# Altium integrated library National Semiconductor ADC.IntLib: 538 symbols (part 5 of 19)
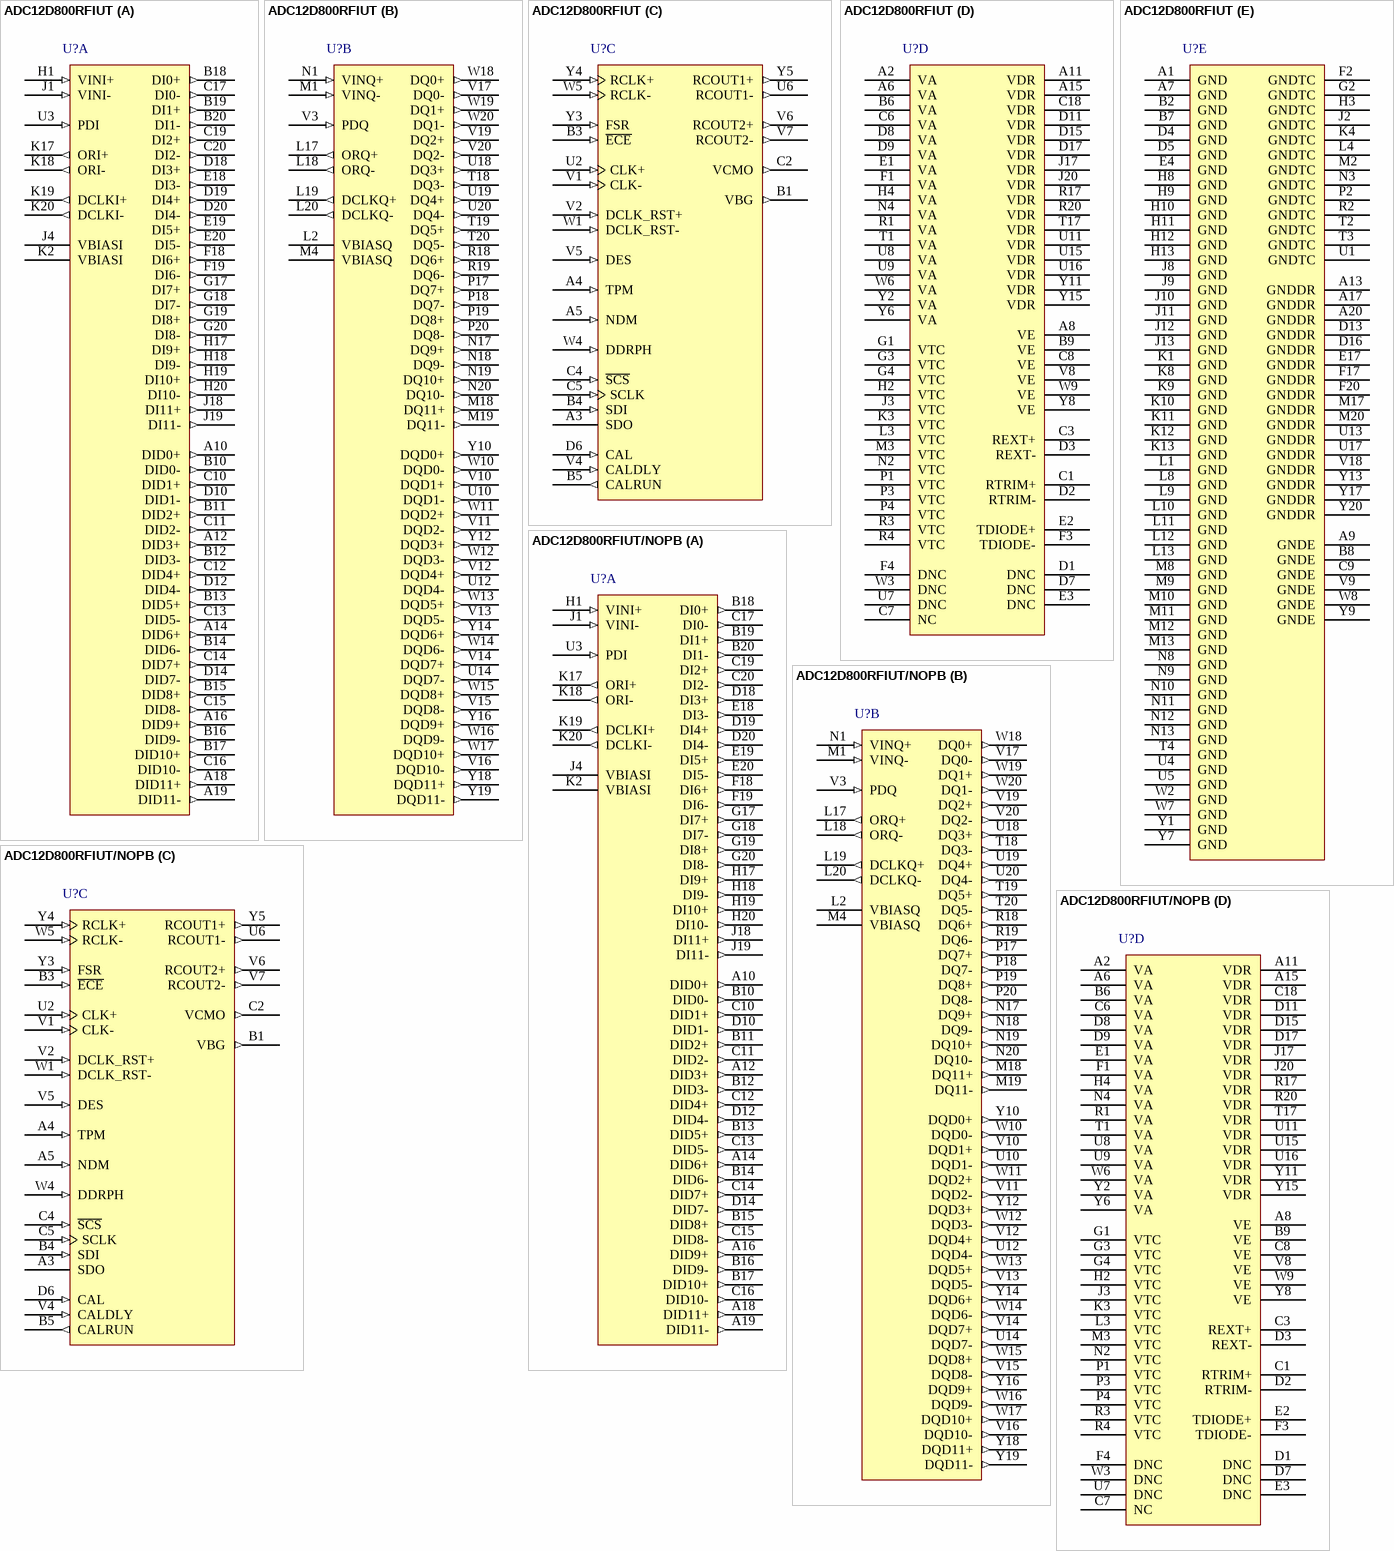
[diagram p49: symbols ADC12D800RFIUT to ADC12D800RFIUT/NOPB]

## ADC12D800RFIUT
designator U?
Low Power, 12-Bit, Dual 800 MSPS or Single 1.6 GSPS ADC, 292-pin TEPBGA; PartNumber: ADC12D800RFIUT; Manufacturer: National Semiconductor; PackageTopMarking: NSUZXYYTTE#*ADC12D800RFIUT; PowerWise: Y; CompType: ADC IC; DatasheetVersion: Mar-2013; PackageVersion: revA, Jul-2001; PackageReference: UFH292A; PackageDescription: TE-PBGA, 27 x 27 x 2.38mm, 292 Ball, 1.27mm Pitch; RoHS: N; PinCount: 292; Code_JEDEC: MS-034-BAL-2; ComponentLink1Description: ADC12D800RF Datasheet; ComponentLink1URL: http://www.ti.com/lit/ds/symlink/adc12d800rf.pdf; ComponentLink2Description: ADC12D800RF Web Page; ComponentLink2URL: http://www.national.com/pf/AD/ADC12D800RF.html; ComponentLink3Description: UFH292A Package Page; ComponentLink3URL: http://www.national.com/packaging/folders/ufh292a.html
footprint UFH292A (BGA, 292-Leads, Body 27x27mm, Pitch 1.27mm)
part A pins: A10 DID0+ (out), A12 DID3+ (out), A14 DID6+ (out), A16 DID9+ (out), A18 DID11+ (out), A19 DID11- (out), B10 DID0- (out), B11 DID2+ (out), B12 DID3- (out), B13 DID5+ (out), B14 DID6- (out), B15 DID8+ (out), B16 DID9- (out), B17 DID10+ (out), B18 DI0+ (out), B19 DI1+ (out), B20 DI1- (out), C10 DID1+ (out), C11 DID2- (out), C12 DID4+ (out), C13 DID5- (out), C14 DID7+ (out), C15 DID8- (out), C16 DID10- (out), C17 DI0- (out), C19 DI2+ (out), C20 DI2- (out), D10 DID1- (out), D12 DID4- (out), D14 DID7- (out), D18 DI3+ (out), D19 DI4+ (out), D20 DI4- (out), E18 DI3- (out), E19 DI5+ (out), E20 DI5- (out), F18 DI6+ (out), F19 DI6- (out), G17 DI7+ (out), G18 DI7- (out), G19 DI8+ (out), G20 DI8- (out), H1 VINI+ (in), H17 DI9+ (out), H18 DI9- (out), H19 DI10+ (out), H20 DI10- (out), J1 VINI- (in), J4 VBIASI, J18 DI11+ (out), J19 DI11- (out), K2 VBIASI, K17 ORI+ (out), K18 ORI- (out), K19 DCLKI+ (out), K20 DCLKI- (out), U3 PDI (in)
part B pins: L2 VBIASQ, L17 ORQ+ (out), L18 ORQ- (out), L19 DCLKQ+ (out), L20 DCLKQ- (out), M1 VINQ- (in), M4 VBIASQ, M18 DQ11+ (out), M19 DQ11- (out), N1 VINQ+ (in), N17 DQ9+ (out), N18 DQ9- (out), N19 DQ10+ (out), N20 DQ10- (out), P17 DQ7+ (out), P18 DQ7- (out), P19 DQ8+ (out), P20 DQ8- (out), R18 DQ6+ (out), R19 DQ6- (out), T18 DQ3- (out), T19 DQ5+ (out), T20 DQ5- (out), U10 DQD1- (out), U12 DQD4- (out), U14 DQD7- (out), U18 DQ3+ (out), U19 DQ4+ (out), U20 DQ4- (out), V3 PDQ (in), V10 DQD1+ (out), V11 DQD2- (out), V12 DQD4+ (out), V13 DQD5- (out), V14 DQD7+ (out), V15 DQD8- (out), V16 DQD10- (out), V17 DQ0- (out), V19 DQ2+ (out), V20 DQ2- (out), W10 DQD0- (out), W11 DQD2+ (out), W12 DQD3- (out), W13 DQD5+ (out), W14 DQD6- (out), W15 DQD8+ (out), W16 DQD9- (out), W17 DQD10+ (out), W18 DQ0+ (out), W19 DQ1+ (out), W20 DQ1- (out), Y10 DQD0+ (out), Y12 DQD3+ (out), Y14 DQD6+ (out), Y16 DQD9+ (out), Y18 DQD11+ (out), Y19 DQD11- (out)
part C pins: A3 SDO (oe), A4 TPM (in), A5 NDM (in), B1 VBG (out), B3 ~{ECE} (in), B4 SDI (in), B5 CALRUN (out), C2 VCMO (out), C4 ~{SCS} (in), C5 SCLK (in), D6 CAL (in), U2 CLK+ (in), U6 RCOUT1- (out), V1 CLK- (in), V2 DCLK_RST+ (in), V4 CALDLY (in), V5 DES (in), V6 RCOUT2+ (out), V7 RCOUT2- (out), W1 DCLK_RST- (in), W4 DDRPH (in), W5 RCLK- (in), Y3 FSR (in), Y4 RCLK+ (in), Y5 RCOUT1+ (out)
part D pins: A2 VA (power), A6 VA (power), A8 VE (power), A11 VDR (power), A15 VDR (power), B6 VA (power), B9 VE (power), C1 RTRIM+, C3 REXT+, C6 VA (power), C7 NC, C8 VE (power), C18 VDR (power), D1 DNC, D2 RTRIM-, D3 REXT-, D7 DNC, D8 VA (power), D9 VA (power), D11 VDR (power), D15 VDR (power), D17 VDR (power), E1 VA (power), E2 TDIODE+, E3 DNC, F1 VA (power), F3 TDIODE-, F4 DNC, G1 VTC (power), G3 VTC (power), G4 VTC (power), H2 VTC (power), H4 VA (power), J3 VTC (power), J17 VDR (power), J20 VDR (power), K3 VTC (power), L3 VTC (power), M3 VTC (power), N2 VTC (power), N4 VA (power), P1 VTC (power), P3 VTC (power), P4 VTC (power), R1 VA (power), R3 VTC (power), R4 VTC (power), R17 VDR (power), R20 VDR (power), T1 VA (power), T17 VDR (power), U7 DNC, U8 VA (power), U9 VA (power), U11 VDR (power), U15 VDR (power), U16 VDR (power), V8 VE (power), W3 DNC, W6 VA (power), W9 VE (power), Y2 VA (power), Y6 VA (power), Y8 VE (power), Y11 VDR (power), Y15 VDR (power)
part E pins: A1 GND (power), A7 GND (power), A9 GNDE (power), A13 GNDDR (power), A17 GNDDR (power), A20 GNDDR (power), B2 GND (power), B7 GND (power), B8 GNDE (power), C9 GNDE (power), D4 GND (power), D5 GND (power), D13 GNDDR (power), D16 GNDDR (power), E4 GND (power), E17 GNDDR (power), F2 GNDTC (power), F17 GNDDR (power), F20 GNDDR (power), G2 GNDTC (power), H3 GNDTC (power), H8 GND (power), H9 GND (power), H10 GND (power), H11 GND (power), H12 GND (power), H13 GND (power), J2 GNDTC (power), J8 GND (power), J9 GND (power), J10 GND (power), J11 GND (power), J12 GND (power), J13 GND (power), K1 GND (power), K4 GNDTC (power), K8 GND (power), K9 GND (power), K10 GND (power), K11 GND (power), K12 GND (power), K13 GND (power), L1 GND (power), L4 GNDTC (power), L8 GND (power), L9 GND (power), L10 GND (power), L11 GND (power), L12 GND (power), L13 GND (power), M2 GNDTC (power), M8 GND (power), M9 GND (power), M10 GND (power), M11 GND (power), M12 GND (power), M13 GND (power), M17 GNDDR (power), M20 GNDDR (power), N3 GNDTC (power), N8 GND (power), N9 GND (power), N10 GND (power), N11 GND (power), N12 GND (power), N13 GND (power), P2 GNDTC (power), R2 GNDTC (power), T2 GNDTC (power), T3 GNDTC (power), T4 GND (power), U1 GNDTC (power), U4 GND (power), U5 GND (power), U13 GNDDR (power), U17 GNDDR (power), V9 GNDE (power), V18 GNDDR (power), W2 GND (power), W7 GND (power), W8 GNDE (power), Y1 GND (power), Y7 GND (power), Y9 GNDE (power), Y13 GNDDR (power), Y17 GNDDR (power), Y20 GNDDR (power)

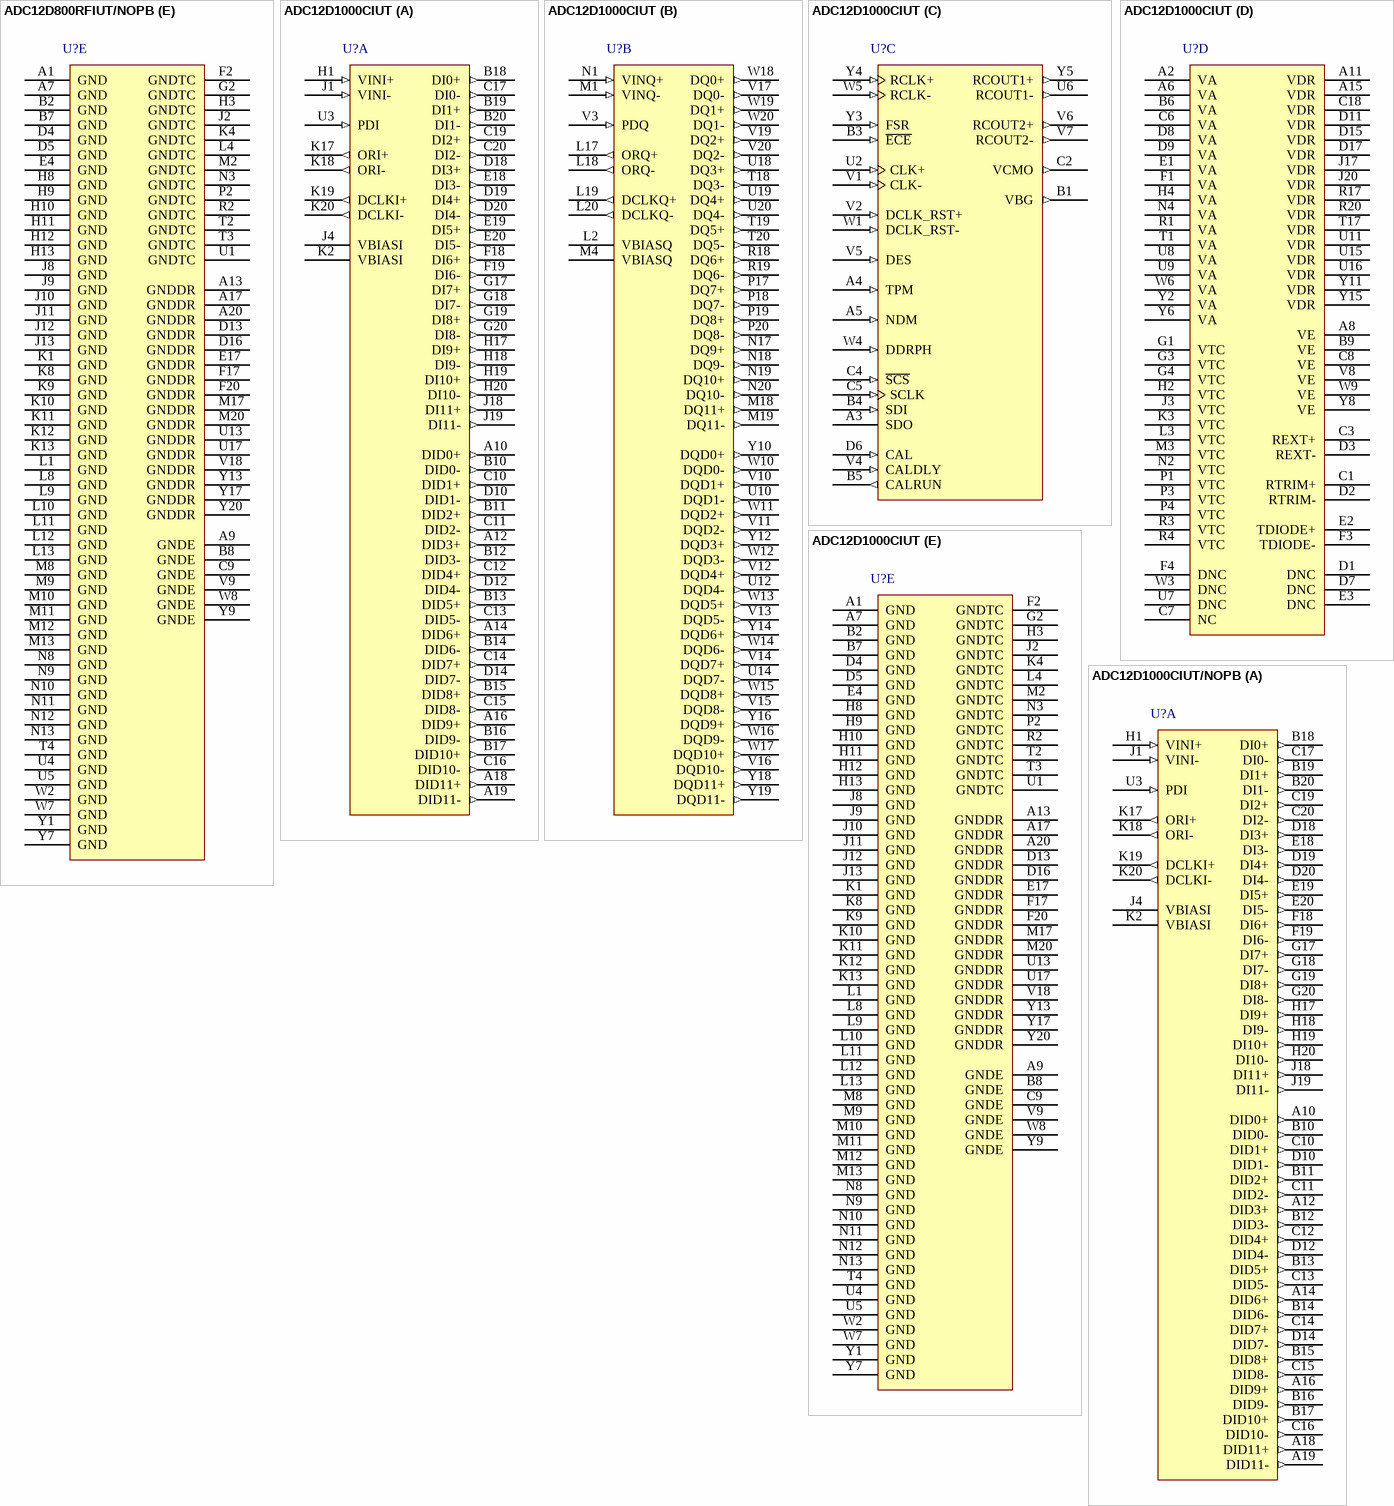
[diagram p16: symbols ADC12D800RFIUT/NOPB to ADC12D1000CIUT/NOPB]

## ADC12D800RFIUT/NOPB
designator U?
Low Power, 12-Bit, Dual 800 MSPS or Single 1.6 GSPS ADC, 292-pin TEPBGA; PartNumber: ADC12D800RFIUT/NOPB; Manufacturer: National Semiconductor; PackageTopMarking: NSUZXYYTTE#*ADC12D800RFIUT; PowerWise: Y; CompType: ADC IC; DatasheetVersion: Mar-2013; PackageVersion: revA, Jul-2001; PackageReference: UFH292A; PackageDescription: TE-PBGA, 27 x 27 x 2.38mm, 292 Ball, 1.27mm Pitch; RoHS: Y; PinCount: 292; Code_JEDEC: MS-034-BAL-2; ComponentLink1Description: ADC12D800RF Datasheet; ComponentLink1URL: http://www.ti.com/lit/ds/symlink/adc12d800rf.pdf; ComponentLink2Description: ADC12D800RF Web Page; ComponentLink2URL: http://www.national.com/pf/AD/ADC12D800RF.html; ComponentLink3Description: UFH292A Package Page; ComponentLink3URL: http://www.national.com/packaging/folders/ufh292a.html
footprint UFH292A (BGA, 292-Leads, Body 27x27mm, Pitch 1.27mm)
part A pins: A10 DID0+ (out), A12 DID3+ (out), A14 DID6+ (out), A16 DID9+ (out), A18 DID11+ (out), A19 DID11- (out), B10 DID0- (out), B11 DID2+ (out), B12 DID3- (out), B13 DID5+ (out), B14 DID6- (out), B15 DID8+ (out), B16 DID9- (out), B17 DID10+ (out), B18 DI0+ (out), B19 DI1+ (out), B20 DI1- (out), C10 DID1+ (out), C11 DID2- (out), C12 DID4+ (out), C13 DID5- (out), C14 DID7+ (out), C15 DID8- (out), C16 DID10- (out), C17 DI0- (out), C19 DI2+ (out), C20 DI2- (out), D10 DID1- (out), D12 DID4- (out), D14 DID7- (out), D18 DI3+ (out), D19 DI4+ (out), D20 DI4- (out), E18 DI3- (out), E19 DI5+ (out), E20 DI5- (out), F18 DI6+ (out), F19 DI6- (out), G17 DI7+ (out), G18 DI7- (out), G19 DI8+ (out), G20 DI8- (out), H1 VINI+ (in), H17 DI9+ (out), H18 DI9- (out), H19 DI10+ (out), H20 DI10- (out), J1 VINI- (in), J4 VBIASI, J18 DI11+ (out), J19 DI11- (out), K2 VBIASI, K17 ORI+ (out), K18 ORI- (out), K19 DCLKI+ (out), K20 DCLKI- (out), U3 PDI (in)
part B pins: L2 VBIASQ, L17 ORQ+ (out), L18 ORQ- (out), L19 DCLKQ+ (out), L20 DCLKQ- (out), M1 VINQ- (in), M4 VBIASQ, M18 DQ11+ (out), M19 DQ11- (out), N1 VINQ+ (in), N17 DQ9+ (out), N18 DQ9- (out), N19 DQ10+ (out), N20 DQ10- (out), P17 DQ7+ (out), P18 DQ7- (out), P19 DQ8+ (out), P20 DQ8- (out), R18 DQ6+ (out), R19 DQ6- (out), T18 DQ3- (out), T19 DQ5+ (out), T20 DQ5- (out), U10 DQD1- (out), U12 DQD4- (out), U14 DQD7- (out), U18 DQ3+ (out), U19 DQ4+ (out), U20 DQ4- (out), V3 PDQ (in), V10 DQD1+ (out), V11 DQD2- (out), V12 DQD4+ (out), V13 DQD5- (out), V14 DQD7+ (out), V15 DQD8- (out), V16 DQD10- (out), V17 DQ0- (out), V19 DQ2+ (out), V20 DQ2- (out), W10 DQD0- (out), W11 DQD2+ (out), W12 DQD3- (out), W13 DQD5+ (out), W14 DQD6- (out), W15 DQD8+ (out), W16 DQD9- (out), W17 DQD10+ (out), W18 DQ0+ (out), W19 DQ1+ (out), W20 DQ1- (out), Y10 DQD0+ (out), Y12 DQD3+ (out), Y14 DQD6+ (out), Y16 DQD9+ (out), Y18 DQD11+ (out), Y19 DQD11- (out)
part C pins: A3 SDO (oe), A4 TPM (in), A5 NDM (in), B1 VBG (out), B3 ~{ECE} (in), B4 SDI (in), B5 CALRUN (out), C2 VCMO (out), C4 ~{SCS} (in), C5 SCLK (in), D6 CAL (in), U2 CLK+ (in), U6 RCOUT1- (out), V1 CLK- (in), V2 DCLK_RST+ (in), V4 CALDLY (in), V5 DES (in), V6 RCOUT2+ (out), V7 RCOUT2- (out), W1 DCLK_RST- (in), W4 DDRPH (in), W5 RCLK- (in), Y3 FSR (in), Y4 RCLK+ (in), Y5 RCOUT1+ (out)
part D pins: A2 VA (power), A6 VA (power), A8 VE (power), A11 VDR (power), A15 VDR (power), B6 VA (power), B9 VE (power), C1 RTRIM+, C3 REXT+, C6 VA (power), C7 NC, C8 VE (power), C18 VDR (power), D1 DNC, D2 RTRIM-, D3 REXT-, D7 DNC, D8 VA (power), D9 VA (power), D11 VDR (power), D15 VDR (power), D17 VDR (power), E1 VA (power), E2 TDIODE+, E3 DNC, F1 VA (power), F3 TDIODE-, F4 DNC, G1 VTC (power), G3 VTC (power), G4 VTC (power), H2 VTC (power), H4 VA (power), J3 VTC (power), J17 VDR (power), J20 VDR (power), K3 VTC (power), L3 VTC (power), M3 VTC (power), N2 VTC (power), N4 VA (power), P1 VTC (power), P3 VTC (power), P4 VTC (power), R1 VA (power), R3 VTC (power), R4 VTC (power), R17 VDR (power), R20 VDR (power), T1 VA (power), T17 VDR (power), U7 DNC, U8 VA (power), U9 VA (power), U11 VDR (power), U15 VDR (power), U16 VDR (power), V8 VE (power), W3 DNC, W6 VA (power), W9 VE (power), Y2 VA (power), Y6 VA (power), Y8 VE (power), Y11 VDR (power), Y15 VDR (power)
part E pins: A1 GND (power), A7 GND (power), A9 GNDE (power), A13 GNDDR (power), A17 GNDDR (power), A20 GNDDR (power), B2 GND (power), B7 GND (power), B8 GNDE (power), C9 GNDE (power), D4 GND (power), D5 GND (power), D13 GNDDR (power), D16 GNDDR (power), E4 GND (power), E17 GNDDR (power), F2 GNDTC (power), F17 GNDDR (power), F20 GNDDR (power), G2 GNDTC (power), H3 GNDTC (power), H8 GND (power), H9 GND (power), H10 GND (power), H11 GND (power), H12 GND (power), H13 GND (power), J2 GNDTC (power), J8 GND (power), J9 GND (power), J10 GND (power), J11 GND (power), J12 GND (power), J13 GND (power), K1 GND (power), K4 GNDTC (power), K8 GND (power), K9 GND (power), K10 GND (power), K11 GND (power), K12 GND (power), K13 GND (power), L1 GND (power), L4 GNDTC (power), L8 GND (power), L9 GND (power), L10 GND (power), L11 GND (power), L12 GND (power), L13 GND (power), M2 GNDTC (power), M8 GND (power), M9 GND (power), M10 GND (power), M11 GND (power), M12 GND (power), M13 GND (power), M17 GNDDR (power), M20 GNDDR (power), N3 GNDTC (power), N8 GND (power), N9 GND (power), N10 GND (power), N11 GND (power), N12 GND (power), N13 GND (power), P2 GNDTC (power), R2 GNDTC (power), T2 GNDTC (power), T3 GNDTC (power), T4 GND (power), U1 GNDTC (power), U4 GND (power), U5 GND (power), U13 GNDDR (power), U17 GNDDR (power), V9 GNDE (power), V18 GNDDR (power), W2 GND (power), W7 GND (power), W8 GNDE (power), Y1 GND (power), Y7 GND (power), Y9 GNDE (power), Y13 GNDDR (power), Y17 GNDDR (power), Y20 GNDDR (power)

## ADC12D1000CIUT
designator U?
12-Bit, 2.0/3.2 GSPS Ultra High-Speed ADC, 292 pin TEPBGA; PartNumber: ADC12D1000CIUT; Manufacturer: National Semiconductor; PackageTopMarking: NSUZXYYTTE#*ADC12D1000CIUT; PowerWise: Y; CompType: ADC IC; DatasheetVersion: Mar-2013; PackageVersion: revA, Jul-2001; PackageReference: UFH292A; PackageDescription: TE-PBGA, 27 x 27 x 2.38mm, 292 Ball, 1.27mm Pitch; RoHS: N; PinCount: 292; High-Reliability: Y; Code_JEDEC: MS-034-BAL-2; ComponentLink1Description: ADC12D1000 Datasheet; ComponentLink1URL: http://www.ti.com/lit/ds/symlink/adc12d1000.pdf; ComponentLink2Description: ADC12D1000 Web Page; ComponentLink2URL: http://www.national.com/pf/AD/ADC12D1000.html; ComponentLink3Description: UFH292A Package Page; ComponentLink3URL: http://www.national.com/packaging/folders/ufh292a.html
footprint UFH292A (BGA, 292-Leads, Body 27x27mm, Pitch 1.27mm)
part A pins: A10 DID0+ (out), A12 DID3+ (out), A14 DID6+ (out), A16 DID9+ (out), A18 DID11+ (out), A19 DID11- (out), B10 DID0- (out), B11 DID2+ (out), B12 DID3- (out), B13 DID5+ (out), B14 DID6- (out), B15 DID8+ (out), B16 DID9- (out), B17 DID10+ (out), B18 DI0+ (out), B19 DI1+ (out), B20 DI1- (out), C10 DID1+ (out), C11 DID2- (out), C12 DID4+ (out), C13 DID5- (out), C14 DID7+ (out), C15 DID8- (out), C16 DID10- (out), C17 DI0- (out), C19 DI2+ (out), C20 DI2- (out), D10 DID1- (out), D12 DID4- (out), D14 DID7- (out), D18 DI3+ (out), D19 DI4+ (out), D20 DI4- (out), E18 DI3- (out), E19 DI5+ (out), E20 DI5- (out), F18 DI6+ (out), F19 DI6- (out), G17 DI7+ (out), G18 DI7- (out), G19 DI8+ (out), G20 DI8- (out), H1 VINI+ (in), H17 DI9+ (out), H18 DI9- (out), H19 DI10+ (out), H20 DI10- (out), J1 VINI- (in), J4 VBIASI, J18 DI11+ (out), J19 DI11- (out), K2 VBIASI, K17 ORI+ (out), K18 ORI- (out), K19 DCLKI+ (out), K20 DCLKI- (out), U3 PDI (in)
part B pins: L2 VBIASQ, L17 ORQ+ (out), L18 ORQ- (out), L19 DCLKQ+ (out), L20 DCLKQ- (out), M1 VINQ- (in), M4 VBIASQ, M18 DQ11+ (out), M19 DQ11- (out), N1 VINQ+ (in), N17 DQ9+ (out), N18 DQ9- (out), N19 DQ10+ (out), N20 DQ10- (out), P17 DQ7+ (out), P18 DQ7- (out), P19 DQ8+ (out), P20 DQ8- (out), R18 DQ6+ (out), R19 DQ6- (out), T18 DQ3- (out), T19 DQ5+ (out), T20 DQ5- (out), U10 DQD1- (out), U12 DQD4- (out), U14 DQD7- (out), U18 DQ3+ (out), U19 DQ4+ (out), U20 DQ4- (out), V3 PDQ (in), V10 DQD1+ (out), V11 DQD2- (out), V12 DQD4+ (out), V13 DQD5- (out), V14 DQD7+ (out), V15 DQD8- (out), V16 DQD10- (out), V17 DQ0- (out), V19 DQ2+ (out), V20 DQ2- (out), W10 DQD0- (out), W11 DQD2+ (out), W12 DQD3- (out), W13 DQD5+ (out), W14 DQD6- (out), W15 DQD8+ (out), W16 DQD9- (out), W17 DQD10+ (out), W18 DQ0+ (out), W19 DQ1+ (out), W20 DQ1- (out), Y10 DQD0+ (out), Y12 DQD3+ (out), Y14 DQD6+ (out), Y16 DQD9+ (out), Y18 DQD11+ (out), Y19 DQD11- (out)
part C pins: A3 SDO (oe), A4 TPM (in), A5 NDM (in), B1 VBG (out), B3 ~{ECE} (in), B4 SDI (in), B5 CALRUN (out), C2 VCMO (out), C4 ~{SCS} (in), C5 SCLK (in), D6 CAL (in), U2 CLK+ (in), U6 RCOUT1- (out), V1 CLK- (in), V2 DCLK_RST+ (in), V4 CALDLY (in), V5 DES (in), V6 RCOUT2+ (out), V7 RCOUT2- (out), W1 DCLK_RST- (in), W4 DDRPH (in), W5 RCLK- (in), Y3 FSR (in), Y4 RCLK+ (in), Y5 RCOUT1+ (out)
part D pins: A2 VA (power), A6 VA (power), A8 VE (power), A11 VDR (power), A15 VDR (power), B6 VA (power), B9 VE (power), C1 RTRIM+, C3 REXT+, C6 VA (power), C7 NC, C8 VE (power), C18 VDR (power), D1 DNC, D2 RTRIM-, D3 REXT-, D7 DNC, D8 VA (power), D9 VA (power), D11 VDR (power), D15 VDR (power), D17 VDR (power), E1 VA (power), E2 TDIODE+, E3 DNC, F1 VA (power), F3 TDIODE-, F4 DNC, G1 VTC (power), G3 VTC (power), G4 VTC (power), H2 VTC (power), H4 VA (power), J3 VTC (power), J17 VDR (power), J20 VDR (power), K3 VTC (power), L3 VTC (power), M3 VTC (power), N2 VTC (power), N4 VA (power), P1 VTC (power), P3 VTC (power), P4 VTC (power), R1 VA (power), R3 VTC (power), R4 VTC (power), R17 VDR (power), R20 VDR (power), T1 VA (power), T17 VDR (power), U7 DNC, U8 VA (power), U9 VA (power), U11 VDR (power), U15 VDR (power), U16 VDR (power), V8 VE (power), W3 DNC, W6 VA (power), W9 VE (power), Y2 VA (power), Y6 VA (power), Y8 VE (power), Y11 VDR (power), Y15 VDR (power)
part E pins: A1 GND (power), A7 GND (power), A9 GNDE (power), A13 GNDDR (power), A17 GNDDR (power), A20 GNDDR (power), B2 GND (power), B7 GND (power), B8 GNDE (power), C9 GNDE (power), D4 GND (power), D5 GND (power), D13 GNDDR (power), D16 GNDDR (power), E4 GND (power), E17 GNDDR (power), F2 GNDTC (power), F17 GNDDR (power), F20 GNDDR (power), G2 GNDTC (power), H3 GNDTC (power), H8 GND (power), H9 GND (power), H10 GND (power), H11 GND (power), H12 GND (power), H13 GND (power), J2 GNDTC (power), J8 GND (power), J9 GND (power), J10 GND (power), J11 GND (power), J12 GND (power), J13 GND (power), K1 GND (power), K4 GNDTC (power), K8 GND (power), K9 GND (power), K10 GND (power), K11 GND (power), K12 GND (power), K13 GND (power), L1 GND (power), L4 GNDTC (power), L8 GND (power), L9 GND (power), L10 GND (power), L11 GND (power), L12 GND (power), L13 GND (power), M2 GNDTC (power), M8 GND (power), M9 GND (power), M10 GND (power), M11 GND (power), M12 GND (power), M13 GND (power), M17 GNDDR (power), M20 GNDDR (power), N3 GNDTC (power), N8 GND (power), N9 GND (power), N10 GND (power), N11 GND (power), N12 GND (power), N13 GND (power), P2 GNDTC (power), R2 GNDTC (power), T2 GNDTC (power), T3 GNDTC (power), T4 GND (power), U1 GNDTC (power), U4 GND (power), U5 GND (power), U13 GNDDR (power), U17 GNDDR (power), V9 GNDE (power), V18 GNDDR (power), W2 GND (power), W7 GND (power), W8 GNDE (power), Y1 GND (power), Y7 GND (power), Y9 GNDE (power), Y13 GNDDR (power), Y17 GNDDR (power), Y20 GNDDR (power)

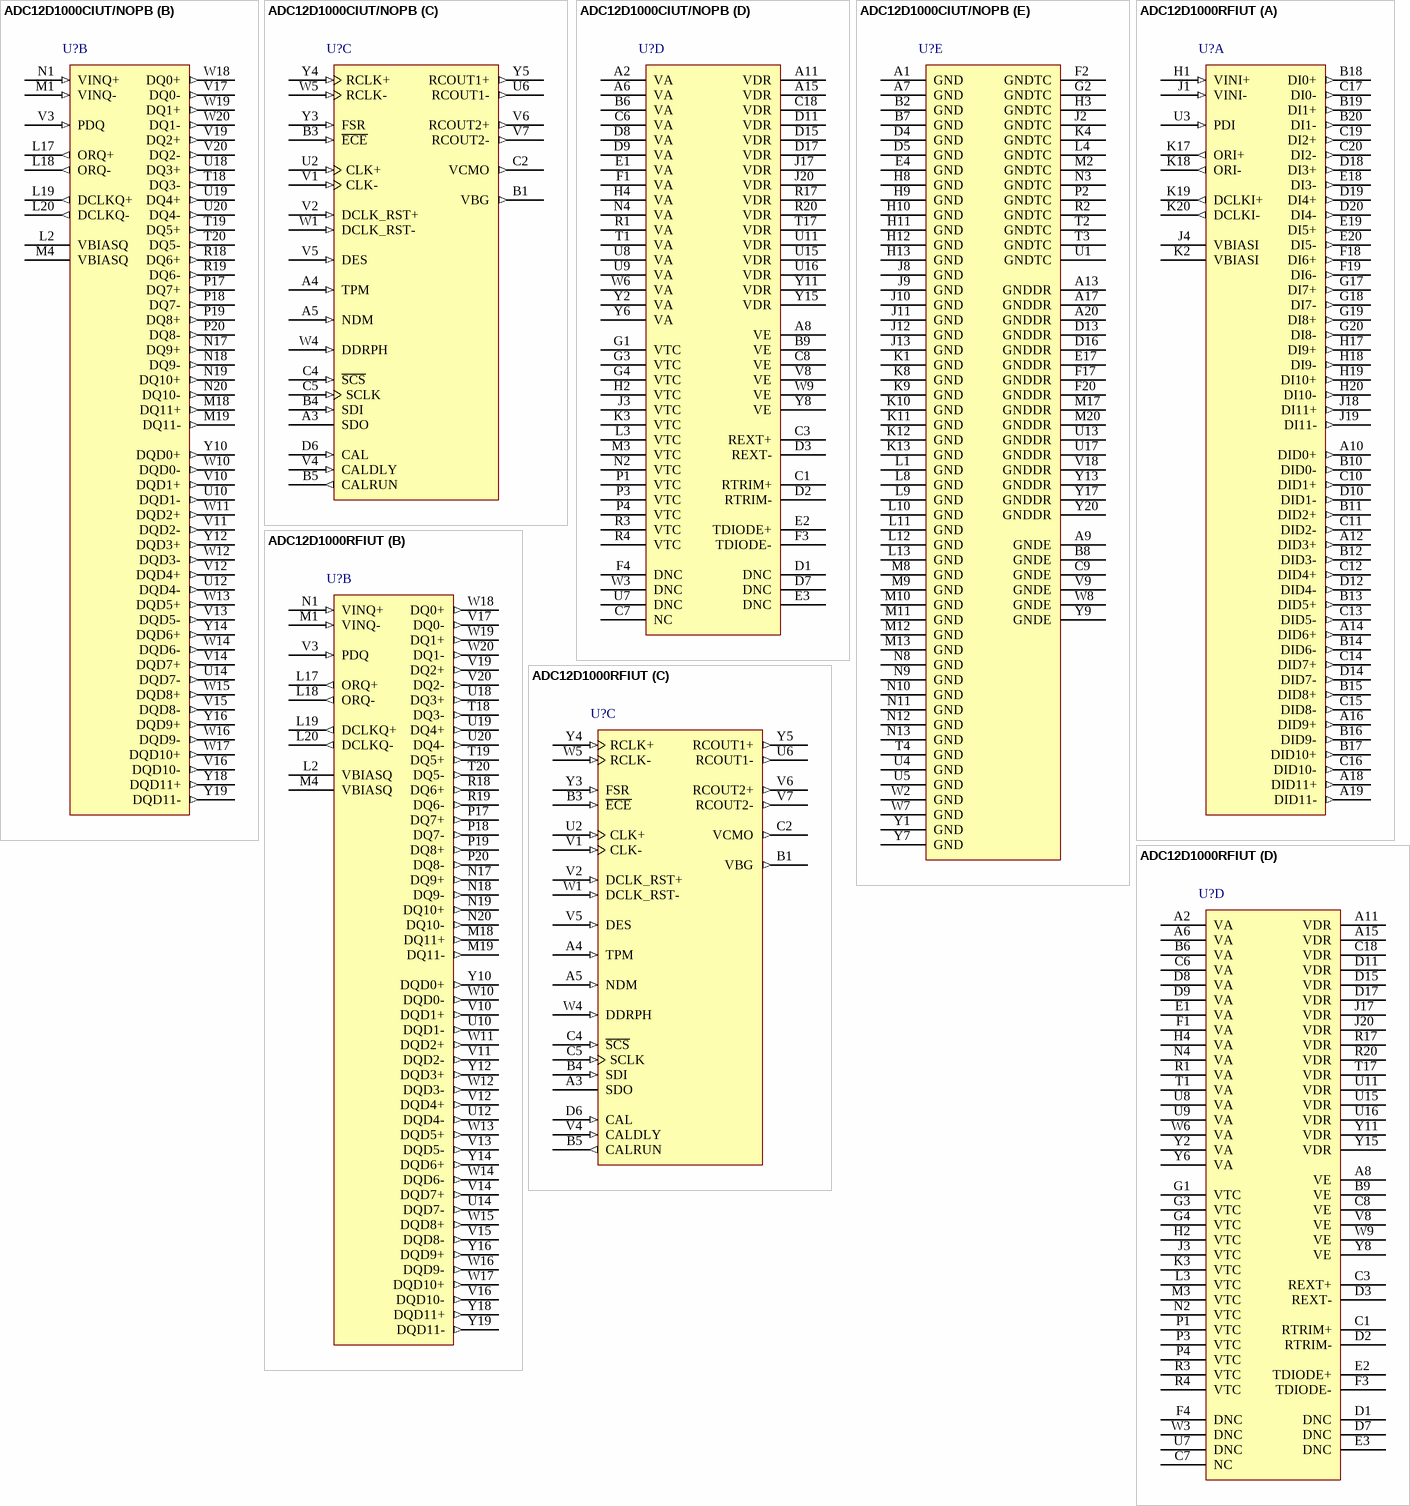
[diagram p17: symbols ADC12D1000CIUT/NOPB to ADC12D1000RFIUT]

## ADC12D1000CIUT/NOPB
designator U?
12-Bit, 2.0/3.2 GSPS Ultra High-Speed ADC, 292 pin TEPBGA; PartNumber: ADC12D1000CIUT/NOPB; Manufacturer: National Semiconductor; PackageTopMarking: NSUZXYYTTE#*ADC12D1000CIUT; PowerWise: Y; CompType: ADC IC; DatasheetVersion: Mar-2013; PackageVersion: revA, Jul-2001; PackageReference: UFH292A; PackageDescription: TE-PBGA, 27 x 27 x 2.38mm, 292 Ball, 1.27mm Pitch; RoHS: Y; PinCount: 292; High-Reliability: Y; Code_JEDEC: MS-034-BAL-2; ComponentLink1Description: ADC12D1000 Datasheet; ComponentLink1URL: http://www.ti.com/lit/ds/symlink/adc12d1000.pdf; ComponentLink2Description: ADC12D1000 Web Page; ComponentLink2URL: http://www.national.com/pf/AD/ADC12D1000.html; ComponentLink3Description: UFH292A Package Page; ComponentLink3URL: http://www.national.com/packaging/folders/ufh292a.html
footprint UFH292A (BGA, 292-Leads, Body 27x27mm, Pitch 1.27mm)
part A pins: A10 DID0+ (out), A12 DID3+ (out), A14 DID6+ (out), A16 DID9+ (out), A18 DID11+ (out), A19 DID11- (out), B10 DID0- (out), B11 DID2+ (out), B12 DID3- (out), B13 DID5+ (out), B14 DID6- (out), B15 DID8+ (out), B16 DID9- (out), B17 DID10+ (out), B18 DI0+ (out), B19 DI1+ (out), B20 DI1- (out), C10 DID1+ (out), C11 DID2- (out), C12 DID4+ (out), C13 DID5- (out), C14 DID7+ (out), C15 DID8- (out), C16 DID10- (out), C17 DI0- (out), C19 DI2+ (out), C20 DI2- (out), D10 DID1- (out), D12 DID4- (out), D14 DID7- (out), D18 DI3+ (out), D19 DI4+ (out), D20 DI4- (out), E18 DI3- (out), E19 DI5+ (out), E20 DI5- (out), F18 DI6+ (out), F19 DI6- (out), G17 DI7+ (out), G18 DI7- (out), G19 DI8+ (out), G20 DI8- (out), H1 VINI+ (in), H17 DI9+ (out), H18 DI9- (out), H19 DI10+ (out), H20 DI10- (out), J1 VINI- (in), J4 VBIASI, J18 DI11+ (out), J19 DI11- (out), K2 VBIASI, K17 ORI+ (out), K18 ORI- (out), K19 DCLKI+ (out), K20 DCLKI- (out), U3 PDI (in)
part B pins: L2 VBIASQ, L17 ORQ+ (out), L18 ORQ- (out), L19 DCLKQ+ (out), L20 DCLKQ- (out), M1 VINQ- (in), M4 VBIASQ, M18 DQ11+ (out), M19 DQ11- (out), N1 VINQ+ (in), N17 DQ9+ (out), N18 DQ9- (out), N19 DQ10+ (out), N20 DQ10- (out), P17 DQ7+ (out), P18 DQ7- (out), P19 DQ8+ (out), P20 DQ8- (out), R18 DQ6+ (out), R19 DQ6- (out), T18 DQ3- (out), T19 DQ5+ (out), T20 DQ5- (out), U10 DQD1- (out), U12 DQD4- (out), U14 DQD7- (out), U18 DQ3+ (out), U19 DQ4+ (out), U20 DQ4- (out), V3 PDQ (in), V10 DQD1+ (out), V11 DQD2- (out), V12 DQD4+ (out), V13 DQD5- (out), V14 DQD7+ (out), V15 DQD8- (out), V16 DQD10- (out), V17 DQ0- (out), V19 DQ2+ (out), V20 DQ2- (out), W10 DQD0- (out), W11 DQD2+ (out), W12 DQD3- (out), W13 DQD5+ (out), W14 DQD6- (out), W15 DQD8+ (out), W16 DQD9- (out), W17 DQD10+ (out), W18 DQ0+ (out), W19 DQ1+ (out), W20 DQ1- (out), Y10 DQD0+ (out), Y12 DQD3+ (out), Y14 DQD6+ (out), Y16 DQD9+ (out), Y18 DQD11+ (out), Y19 DQD11- (out)
part C pins: A3 SDO (oe), A4 TPM (in), A5 NDM (in), B1 VBG (out), B3 ~{ECE} (in), B4 SDI (in), B5 CALRUN (out), C2 VCMO (out), C4 ~{SCS} (in), C5 SCLK (in), D6 CAL (in), U2 CLK+ (in), U6 RCOUT1- (out), V1 CLK- (in), V2 DCLK_RST+ (in), V4 CALDLY (in), V5 DES (in), V6 RCOUT2+ (out), V7 RCOUT2- (out), W1 DCLK_RST- (in), W4 DDRPH (in), W5 RCLK- (in), Y3 FSR (in), Y4 RCLK+ (in), Y5 RCOUT1+ (out)
part D pins: A2 VA (power), A6 VA (power), A8 VE (power), A11 VDR (power), A15 VDR (power), B6 VA (power), B9 VE (power), C1 RTRIM+, C3 REXT+, C6 VA (power), C7 NC, C8 VE (power), C18 VDR (power), D1 DNC, D2 RTRIM-, D3 REXT-, D7 DNC, D8 VA (power), D9 VA (power), D11 VDR (power), D15 VDR (power), D17 VDR (power), E1 VA (power), E2 TDIODE+, E3 DNC, F1 VA (power), F3 TDIODE-, F4 DNC, G1 VTC (power), G3 VTC (power), G4 VTC (power), H2 VTC (power), H4 VA (power), J3 VTC (power), J17 VDR (power), J20 VDR (power), K3 VTC (power), L3 VTC (power), M3 VTC (power), N2 VTC (power), N4 VA (power), P1 VTC (power), P3 VTC (power), P4 VTC (power), R1 VA (power), R3 VTC (power), R4 VTC (power), R17 VDR (power), R20 VDR (power), T1 VA (power), T17 VDR (power), U7 DNC, U8 VA (power), U9 VA (power), U11 VDR (power), U15 VDR (power), U16 VDR (power), V8 VE (power), W3 DNC, W6 VA (power), W9 VE (power), Y2 VA (power), Y6 VA (power), Y8 VE (power), Y11 VDR (power), Y15 VDR (power)
part E pins: A1 GND (power), A7 GND (power), A9 GNDE (power), A13 GNDDR (power), A17 GNDDR (power), A20 GNDDR (power), B2 GND (power), B7 GND (power), B8 GNDE (power), C9 GNDE (power), D4 GND (power), D5 GND (power), D13 GNDDR (power), D16 GNDDR (power), E4 GND (power), E17 GNDDR (power), F2 GNDTC (power), F17 GNDDR (power), F20 GNDDR (power), G2 GNDTC (power), H3 GNDTC (power), H8 GND (power), H9 GND (power), H10 GND (power), H11 GND (power), H12 GND (power), H13 GND (power), J2 GNDTC (power), J8 GND (power), J9 GND (power), J10 GND (power), J11 GND (power), J12 GND (power), J13 GND (power), K1 GND (power), K4 GNDTC (power), K8 GND (power), K9 GND (power), K10 GND (power), K11 GND (power), K12 GND (power), K13 GND (power), L1 GND (power), L4 GNDTC (power), L8 GND (power), L9 GND (power), L10 GND (power), L11 GND (power), L12 GND (power), L13 GND (power), M2 GNDTC (power), M8 GND (power), M9 GND (power), M10 GND (power), M11 GND (power), M12 GND (power), M13 GND (power), M17 GNDDR (power), M20 GNDDR (power), N3 GNDTC (power), N8 GND (power), N9 GND (power), N10 GND (power), N11 GND (power), N12 GND (power), N13 GND (power), P2 GNDTC (power), R2 GNDTC (power), T2 GNDTC (power), T3 GNDTC (power), T4 GND (power), U1 GNDTC (power), U4 GND (power), U5 GND (power), U13 GNDDR (power), U17 GNDDR (power), V9 GNDE (power), V18 GNDDR (power), W2 GND (power), W7 GND (power), W8 GNDE (power), Y1 GND (power), Y7 GND (power), Y9 GNDE (power), Y13 GNDDR (power), Y17 GNDDR (power), Y20 GNDDR (power)

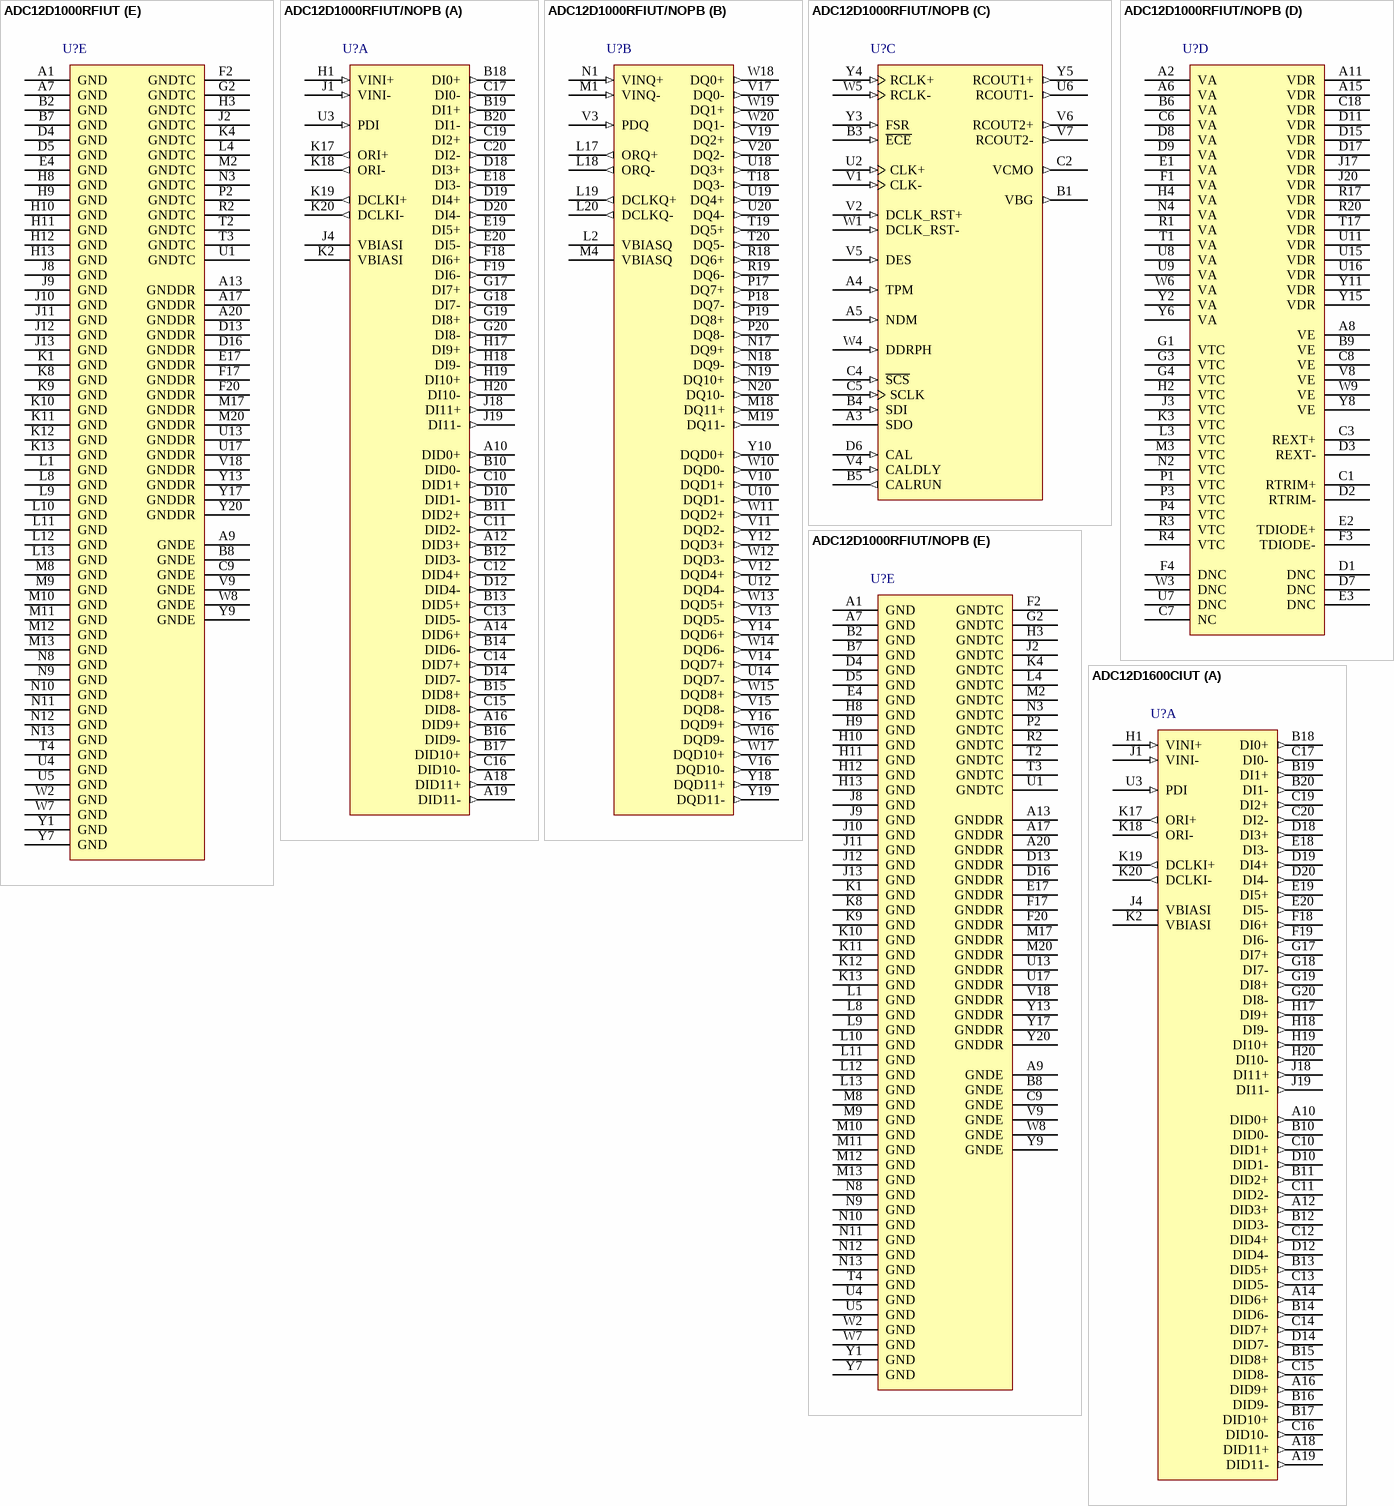
[diagram p18: symbols ADC12D1000RFIUT to ADC12D1600CIUT]

## ADC12D1000RFIUT
designator U?
12-Bit, 1.0 / 2.0 GSPS RF Sampling ADC, 292-pin TEPBGA; PartNumber: ADC12D1000RFIUT; Manufacturer: National Semiconductor; PackageTopMarking: NSUZXYYTTE#*ADC12D1000RFIUT; PowerWise: Y; CompType: ADC IC; DatasheetVersion: Apr-2013; PackageVersion: revA, Jul-2001; PackageReference: UFH292A; PackageDescription: TE-PBGA, 27 x 27 x 2.38mm, 292 Ball, 1.27mm Pitch; RoHS: N; PinCount: 292; Code_JEDEC: MS-034-BAL-2; ComponentLink1Description: ADC12D1000 Datasheet; ComponentLink1URL: http://www.ti.com/lit/ds/symlink/adc12d1000rf.pdf; ComponentLink2Description: ADC12D1000 Web Page; ComponentLink2URL: http://www.national.com/pf/AD/ADC12D1000.html; ComponentLink3Description: UFH292A Package Page; ComponentLink3URL: http://www.national.com/packaging/folders/ufh292a.html
footprint UFH292A (BGA, 292-Leads, Body 27x27mm, Pitch 1.27mm)
part A pins: A10 DID0+ (out), A12 DID3+ (out), A14 DID6+ (out), A16 DID9+ (out), A18 DID11+ (out), A19 DID11- (out), B10 DID0- (out), B11 DID2+ (out), B12 DID3- (out), B13 DID5+ (out), B14 DID6- (out), B15 DID8+ (out), B16 DID9- (out), B17 DID10+ (out), B18 DI0+ (out), B19 DI1+ (out), B20 DI1- (out), C10 DID1+ (out), C11 DID2- (out), C12 DID4+ (out), C13 DID5- (out), C14 DID7+ (out), C15 DID8- (out), C16 DID10- (out), C17 DI0- (out), C19 DI2+ (out), C20 DI2- (out), D10 DID1- (out), D12 DID4- (out), D14 DID7- (out), D18 DI3+ (out), D19 DI4+ (out), D20 DI4- (out), E18 DI3- (out), E19 DI5+ (out), E20 DI5- (out), F18 DI6+ (out), F19 DI6- (out), G17 DI7+ (out), G18 DI7- (out), G19 DI8+ (out), G20 DI8- (out), H1 VINI+ (in), H17 DI9+ (out), H18 DI9- (out), H19 DI10+ (out), H20 DI10- (out), J1 VINI- (in), J4 VBIASI, J18 DI11+ (out), J19 DI11- (out), K2 VBIASI, K17 ORI+ (out), K18 ORI- (out), K19 DCLKI+ (out), K20 DCLKI- (out), U3 PDI (in)
part B pins: L2 VBIASQ, L17 ORQ+ (out), L18 ORQ- (out), L19 DCLKQ+ (out), L20 DCLKQ- (out), M1 VINQ- (in), M4 VBIASQ, M18 DQ11+ (out), M19 DQ11- (out), N1 VINQ+ (in), N17 DQ9+ (out), N18 DQ9- (out), N19 DQ10+ (out), N20 DQ10- (out), P17 DQ7+ (out), P18 DQ7- (out), P19 DQ8+ (out), P20 DQ8- (out), R18 DQ6+ (out), R19 DQ6- (out), T18 DQ3- (out), T19 DQ5+ (out), T20 DQ5- (out), U10 DQD1- (out), U12 DQD4- (out), U14 DQD7- (out), U18 DQ3+ (out), U19 DQ4+ (out), U20 DQ4- (out), V3 PDQ (in), V10 DQD1+ (out), V11 DQD2- (out), V12 DQD4+ (out), V13 DQD5- (out), V14 DQD7+ (out), V15 DQD8- (out), V16 DQD10- (out), V17 DQ0- (out), V19 DQ2+ (out), V20 DQ2- (out), W10 DQD0- (out), W11 DQD2+ (out), W12 DQD3- (out), W13 DQD5+ (out), W14 DQD6- (out), W15 DQD8+ (out), W16 DQD9- (out), W17 DQD10+ (out), W18 DQ0+ (out), W19 DQ1+ (out), W20 DQ1- (out), Y10 DQD0+ (out), Y12 DQD3+ (out), Y14 DQD6+ (out), Y16 DQD9+ (out), Y18 DQD11+ (out), Y19 DQD11- (out)
part C pins: A3 SDO (oe), A4 TPM (in), A5 NDM (in), B1 VBG (out), B3 ~{ECE} (in), B4 SDI (in), B5 CALRUN (out), C2 VCMO (out), C4 ~{SCS} (in), C5 SCLK (in), D6 CAL (in), U2 CLK+ (in), U6 RCOUT1- (out), V1 CLK- (in), V2 DCLK_RST+ (in), V4 CALDLY (in), V5 DES (in), V6 RCOUT2+ (out), V7 RCOUT2- (out), W1 DCLK_RST- (in), W4 DDRPH (in), W5 RCLK- (in), Y3 FSR (in), Y4 RCLK+ (in), Y5 RCOUT1+ (out)
part D pins: A2 VA (power), A6 VA (power), A8 VE (power), A11 VDR (power), A15 VDR (power), B6 VA (power), B9 VE (power), C1 RTRIM+, C3 REXT+, C6 VA (power), C7 NC, C8 VE (power), C18 VDR (power), D1 DNC, D2 RTRIM-, D3 REXT-, D7 DNC, D8 VA (power), D9 VA (power), D11 VDR (power), D15 VDR (power), D17 VDR (power), E1 VA (power), E2 TDIODE+, E3 DNC, F1 VA (power), F3 TDIODE-, F4 DNC, G1 VTC (power), G3 VTC (power), G4 VTC (power), H2 VTC (power), H4 VA (power), J3 VTC (power), J17 VDR (power), J20 VDR (power), K3 VTC (power), L3 VTC (power), M3 VTC (power), N2 VTC (power), N4 VA (power), P1 VTC (power), P3 VTC (power), P4 VTC (power), R1 VA (power), R3 VTC (power), R4 VTC (power), R17 VDR (power), R20 VDR (power), T1 VA (power), T17 VDR (power), U7 DNC, U8 VA (power), U9 VA (power), U11 VDR (power), U15 VDR (power), U16 VDR (power), V8 VE (power), W3 DNC, W6 VA (power), W9 VE (power), Y2 VA (power), Y6 VA (power), Y8 VE (power), Y11 VDR (power), Y15 VDR (power)
part E pins: A1 GND (power), A7 GND (power), A9 GNDE (power), A13 GNDDR (power), A17 GNDDR (power), A20 GNDDR (power), B2 GND (power), B7 GND (power), B8 GNDE (power), C9 GNDE (power), D4 GND (power), D5 GND (power), D13 GNDDR (power), D16 GNDDR (power), E4 GND (power), E17 GNDDR (power), F2 GNDTC (power), F17 GNDDR (power), F20 GNDDR (power), G2 GNDTC (power), H3 GNDTC (power), H8 GND (power), H9 GND (power), H10 GND (power), H11 GND (power), H12 GND (power), H13 GND (power), J2 GNDTC (power), J8 GND (power), J9 GND (power), J10 GND (power), J11 GND (power), J12 GND (power), J13 GND (power), K1 GND (power), K4 GNDTC (power), K8 GND (power), K9 GND (power), K10 GND (power), K11 GND (power), K12 GND (power), K13 GND (power), L1 GND (power), L4 GNDTC (power), L8 GND (power), L9 GND (power), L10 GND (power), L11 GND (power), L12 GND (power), L13 GND (power), M2 GNDTC (power), M8 GND (power), M9 GND (power), M10 GND (power), M11 GND (power), M12 GND (power), M13 GND (power), M17 GNDDR (power), M20 GNDDR (power), N3 GNDTC (power), N8 GND (power), N9 GND (power), N10 GND (power), N11 GND (power), N12 GND (power), N13 GND (power), P2 GNDTC (power), R2 GNDTC (power), T2 GNDTC (power), T3 GNDTC (power), T4 GND (power), U1 GNDTC (power), U4 GND (power), U5 GND (power), U13 GNDDR (power), U17 GNDDR (power), V9 GNDE (power), V18 GNDDR (power), W2 GND (power), W7 GND (power), W8 GNDE (power), Y1 GND (power), Y7 GND (power), Y9 GNDE (power), Y13 GNDDR (power), Y17 GNDDR (power), Y20 GNDDR (power)

## ADC12D1000RFIUT/NOPB
designator U?
12-Bit, 1.0 / 2.0 GSPS RF Sampling ADC, 292-pin TEPBGA; PartNumber: ADC12D1000RFIUT/NOPB; Manufacturer: National Semiconductor; PackageTopMarking: NSUZXYYTTE#*ADC12D1000RFIUT; PowerWise: Y; CompType: ADC IC; DatasheetVersion: Apr-2013; PackageVersion: revA, Jul-2001; PackageReference: UFH292A; PackageDescription: TE-PBGA, 27 x 27 x 2.38mm, 292 Ball, 1.27mm Pitch; RoHS: Y; PinCount: 292; Code_JEDEC: MS-034-BAL-2; ComponentLink1Description: ADC12D1000 Datasheet; ComponentLink1URL: http://www.ti.com/lit/ds/symlink/adc12d1000rf.pdf; ComponentLink2Description: ADC12D1000 Web Page; ComponentLink2URL: http://www.national.com/pf/AD/ADC12D1000.html; ComponentLink3Description: UFH292A Package Page; ComponentLink3URL: http://www.national.com/packaging/folders/ufh292a.html
footprint UFH292A (BGA, 292-Leads, Body 27x27mm, Pitch 1.27mm)
part A pins: A10 DID0+ (out), A12 DID3+ (out), A14 DID6+ (out), A16 DID9+ (out), A18 DID11+ (out), A19 DID11- (out), B10 DID0- (out), B11 DID2+ (out), B12 DID3- (out), B13 DID5+ (out), B14 DID6- (out), B15 DID8+ (out), B16 DID9- (out), B17 DID10+ (out), B18 DI0+ (out), B19 DI1+ (out), B20 DI1- (out), C10 DID1+ (out), C11 DID2- (out), C12 DID4+ (out), C13 DID5- (out), C14 DID7+ (out), C15 DID8- (out), C16 DID10- (out), C17 DI0- (out), C19 DI2+ (out), C20 DI2- (out), D10 DID1- (out), D12 DID4- (out), D14 DID7- (out), D18 DI3+ (out), D19 DI4+ (out), D20 DI4- (out), E18 DI3- (out), E19 DI5+ (out), E20 DI5- (out), F18 DI6+ (out), F19 DI6- (out), G17 DI7+ (out), G18 DI7- (out), G19 DI8+ (out), G20 DI8- (out), H1 VINI+ (in), H17 DI9+ (out), H18 DI9- (out), H19 DI10+ (out), H20 DI10- (out), J1 VINI- (in), J4 VBIASI, J18 DI11+ (out), J19 DI11- (out), K2 VBIASI, K17 ORI+ (out), K18 ORI- (out), K19 DCLKI+ (out), K20 DCLKI- (out), U3 PDI (in)
part B pins: L2 VBIASQ, L17 ORQ+ (out), L18 ORQ- (out), L19 DCLKQ+ (out), L20 DCLKQ- (out), M1 VINQ- (in), M4 VBIASQ, M18 DQ11+ (out), M19 DQ11- (out), N1 VINQ+ (in), N17 DQ9+ (out), N18 DQ9- (out), N19 DQ10+ (out), N20 DQ10- (out), P17 DQ7+ (out), P18 DQ7- (out), P19 DQ8+ (out), P20 DQ8- (out), R18 DQ6+ (out), R19 DQ6- (out), T18 DQ3- (out), T19 DQ5+ (out), T20 DQ5- (out), U10 DQD1- (out), U12 DQD4- (out), U14 DQD7- (out), U18 DQ3+ (out), U19 DQ4+ (out), U20 DQ4- (out), V3 PDQ (in), V10 DQD1+ (out), V11 DQD2- (out), V12 DQD4+ (out), V13 DQD5- (out), V14 DQD7+ (out), V15 DQD8- (out), V16 DQD10- (out), V17 DQ0- (out), V19 DQ2+ (out), V20 DQ2- (out), W10 DQD0- (out), W11 DQD2+ (out), W12 DQD3- (out), W13 DQD5+ (out), W14 DQD6- (out), W15 DQD8+ (out), W16 DQD9- (out), W17 DQD10+ (out), W18 DQ0+ (out), W19 DQ1+ (out), W20 DQ1- (out), Y10 DQD0+ (out), Y12 DQD3+ (out), Y14 DQD6+ (out), Y16 DQD9+ (out), Y18 DQD11+ (out), Y19 DQD11- (out)
part C pins: A3 SDO (oe), A4 TPM (in), A5 NDM (in), B1 VBG (out), B3 ~{ECE} (in), B4 SDI (in), B5 CALRUN (out), C2 VCMO (out), C4 ~{SCS} (in), C5 SCLK (in), D6 CAL (in), U2 CLK+ (in), U6 RCOUT1- (out), V1 CLK- (in), V2 DCLK_RST+ (in), V4 CALDLY (in), V5 DES (in), V6 RCOUT2+ (out), V7 RCOUT2- (out), W1 DCLK_RST- (in), W4 DDRPH (in), W5 RCLK- (in), Y3 FSR (in), Y4 RCLK+ (in), Y5 RCOUT1+ (out)
part D pins: A2 VA (power), A6 VA (power), A8 VE (power), A11 VDR (power), A15 VDR (power), B6 VA (power), B9 VE (power), C1 RTRIM+, C3 REXT+, C6 VA (power), C7 NC, C8 VE (power), C18 VDR (power), D1 DNC, D2 RTRIM-, D3 REXT-, D7 DNC, D8 VA (power), D9 VA (power), D11 VDR (power), D15 VDR (power), D17 VDR (power), E1 VA (power), E2 TDIODE+, E3 DNC, F1 VA (power), F3 TDIODE-, F4 DNC, G1 VTC (power), G3 VTC (power), G4 VTC (power), H2 VTC (power), H4 VA (power), J3 VTC (power), J17 VDR (power), J20 VDR (power), K3 VTC (power), L3 VTC (power), M3 VTC (power), N2 VTC (power), N4 VA (power), P1 VTC (power), P3 VTC (power), P4 VTC (power), R1 VA (power), R3 VTC (power), R4 VTC (power), R17 VDR (power), R20 VDR (power), T1 VA (power), T17 VDR (power), U7 DNC, U8 VA (power), U9 VA (power), U11 VDR (power), U15 VDR (power), U16 VDR (power), V8 VE (power), W3 DNC, W6 VA (power), W9 VE (power), Y2 VA (power), Y6 VA (power), Y8 VE (power), Y11 VDR (power), Y15 VDR (power)
part E pins: A1 GND (power), A7 GND (power), A9 GNDE (power), A13 GNDDR (power), A17 GNDDR (power), A20 GNDDR (power), B2 GND (power), B7 GND (power), B8 GNDE (power), C9 GNDE (power), D4 GND (power), D5 GND (power), D13 GNDDR (power), D16 GNDDR (power), E4 GND (power), E17 GNDDR (power), F2 GNDTC (power), F17 GNDDR (power), F20 GNDDR (power), G2 GNDTC (power), H3 GNDTC (power), H8 GND (power), H9 GND (power), H10 GND (power), H11 GND (power), H12 GND (power), H13 GND (power), J2 GNDTC (power), J8 GND (power), J9 GND (power), J10 GND (power), J11 GND (power), J12 GND (power), J13 GND (power), K1 GND (power), K4 GNDTC (power), K8 GND (power), K9 GND (power), K10 GND (power), K11 GND (power), K12 GND (power), K13 GND (power), L1 GND (power), L4 GNDTC (power), L8 GND (power), L9 GND (power), L10 GND (power), L11 GND (power), L12 GND (power), L13 GND (power), M2 GNDTC (power), M8 GND (power), M9 GND (power), M10 GND (power), M11 GND (power), M12 GND (power), M13 GND (power), M17 GNDDR (power), M20 GNDDR (power), N3 GNDTC (power), N8 GND (power), N9 GND (power), N10 GND (power), N11 GND (power), N12 GND (power), N13 GND (power), P2 GNDTC (power), R2 GNDTC (power), T2 GNDTC (power), T3 GNDTC (power), T4 GND (power), U1 GNDTC (power), U4 GND (power), U5 GND (power), U13 GNDDR (power), U17 GNDDR (power), V9 GNDE (power), V18 GNDDR (power), W2 GND (power), W7 GND (power), W8 GNDE (power), Y1 GND (power), Y7 GND (power), Y9 GNDE (power), Y13 GNDDR (power), Y17 GNDDR (power), Y20 GNDDR (power)

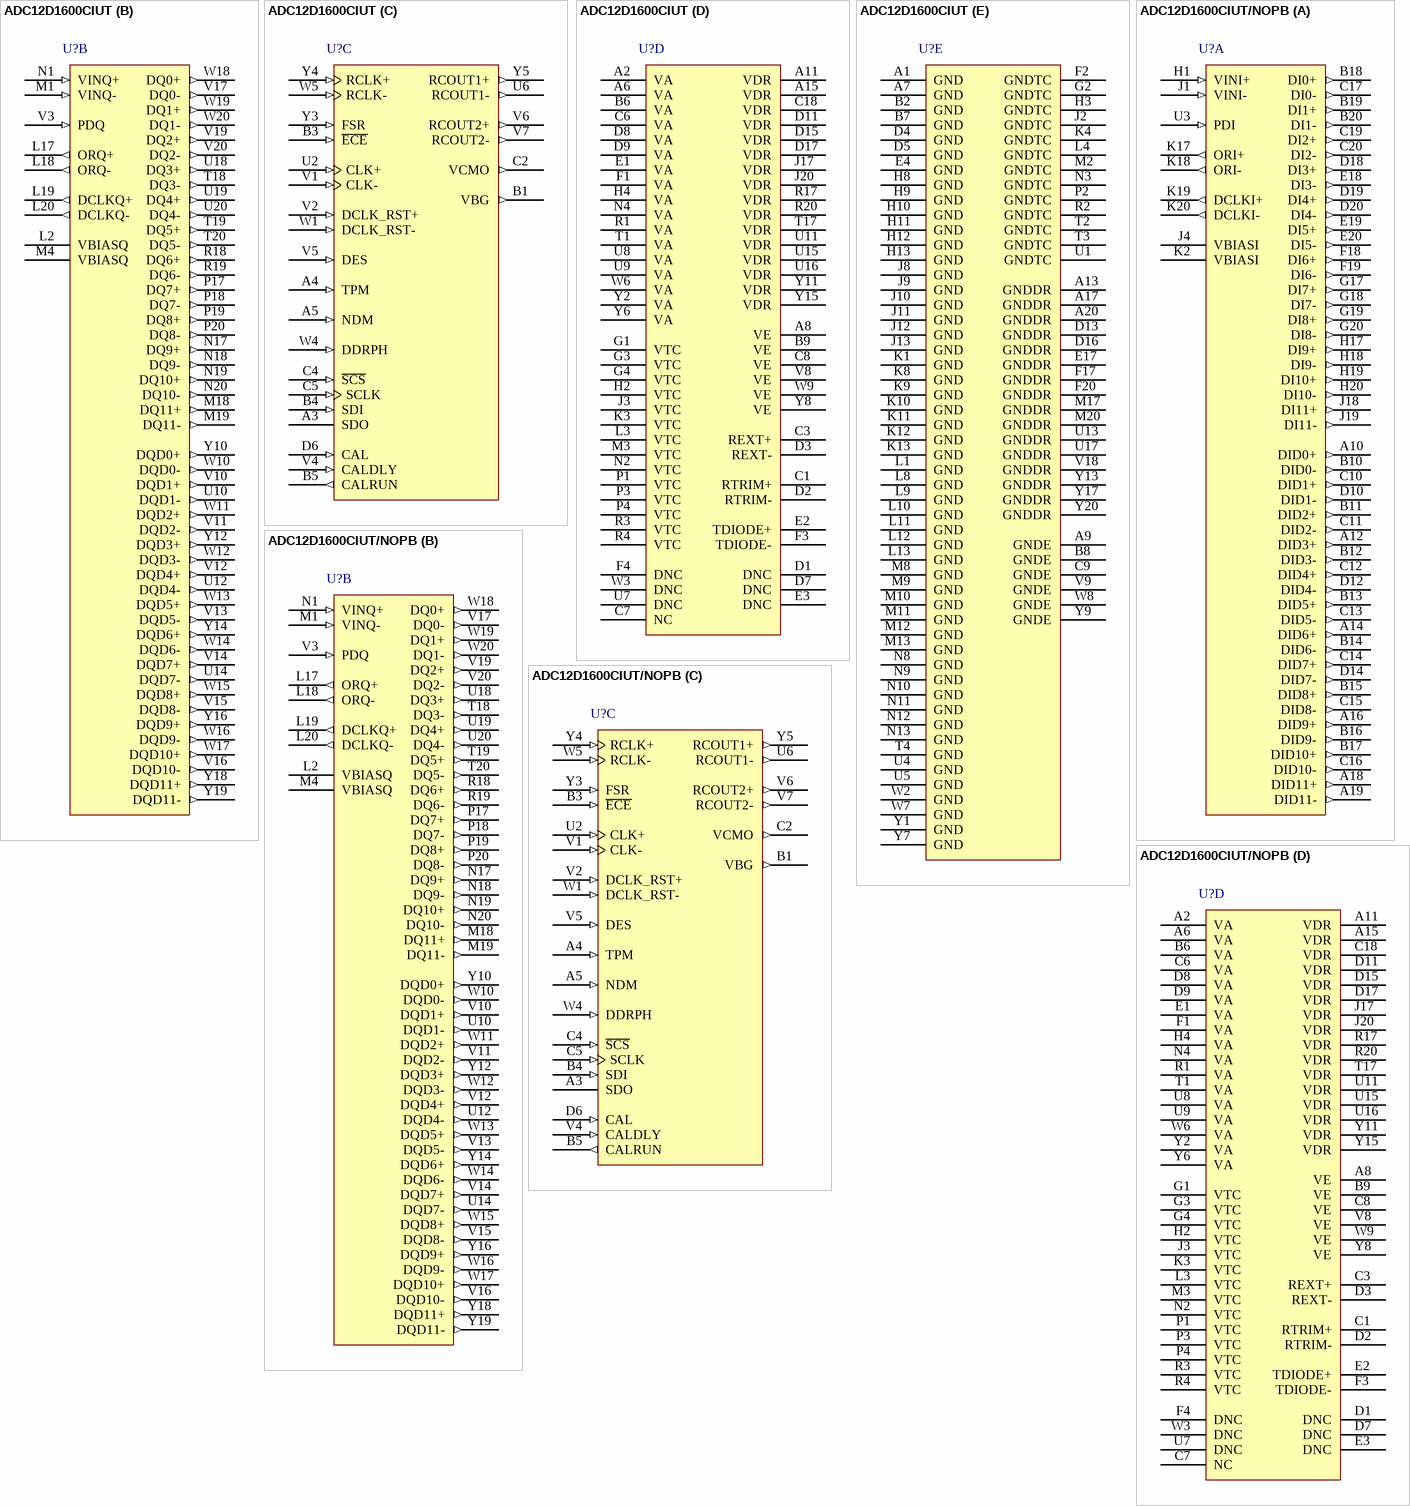
[diagram p19: symbols ADC12D1600CIUT to ADC12D1600CIUT/NOPB]

## ADC12D1600CIUT
designator U?
12-Bit, 2.0/3.2 GSPS Ultra High-Speed ADC, 292 pin TEPBGA; PartNumber: ADC12D1600CIUT; Manufacturer: National Semiconductor; PackageTopMarking: NSUZXYYTTE#*ADC12D1600CIUT; PowerWise: Y; CompType: ADC IC; DatasheetVersion: Mar-2013; PackageVersion: revA, Jul-2001; PackageReference: UFH292A; PackageDescription: TE-PBGA, 27 x 27 x 2.38mm, 292 Ball, 1.27mm Pitch; RoHS: N; PinCount: 292; High-Reliability: Y; Code_JEDEC: MS-034-BAL-2; ComponentLink1Description: ADC12D1600 Datasheet; ComponentLink1URL: http://www.ti.com/lit/ds/symlink/adc12d1600.pdf; ComponentLink2Description: ADC12D1600 Web Page; ComponentLink2URL: http://www.national.com/pf/AD/ADC12D1600.html; ComponentLink3Description: UFH292A Package Page; ComponentLink3URL: http://www.national.com/packaging/folders/ufh292a.html
footprint UFH292A (BGA, 292-Leads, Body 27x27mm, Pitch 1.27mm)
part A pins: A10 DID0+ (out), A12 DID3+ (out), A14 DID6+ (out), A16 DID9+ (out), A18 DID11+ (out), A19 DID11- (out), B10 DID0- (out), B11 DID2+ (out), B12 DID3- (out), B13 DID5+ (out), B14 DID6- (out), B15 DID8+ (out), B16 DID9- (out), B17 DID10+ (out), B18 DI0+ (out), B19 DI1+ (out), B20 DI1- (out), C10 DID1+ (out), C11 DID2- (out), C12 DID4+ (out), C13 DID5- (out), C14 DID7+ (out), C15 DID8- (out), C16 DID10- (out), C17 DI0- (out), C19 DI2+ (out), C20 DI2- (out), D10 DID1- (out), D12 DID4- (out), D14 DID7- (out), D18 DI3+ (out), D19 DI4+ (out), D20 DI4- (out), E18 DI3- (out), E19 DI5+ (out), E20 DI5- (out), F18 DI6+ (out), F19 DI6- (out), G17 DI7+ (out), G18 DI7- (out), G19 DI8+ (out), G20 DI8- (out), H1 VINI+ (in), H17 DI9+ (out), H18 DI9- (out), H19 DI10+ (out), H20 DI10- (out), J1 VINI- (in), J4 VBIASI, J18 DI11+ (out), J19 DI11- (out), K2 VBIASI, K17 ORI+ (out), K18 ORI- (out), K19 DCLKI+ (out), K20 DCLKI- (out), U3 PDI (in)
part B pins: L2 VBIASQ, L17 ORQ+ (out), L18 ORQ- (out), L19 DCLKQ+ (out), L20 DCLKQ- (out), M1 VINQ- (in), M4 VBIASQ, M18 DQ11+ (out), M19 DQ11- (out), N1 VINQ+ (in), N17 DQ9+ (out), N18 DQ9- (out), N19 DQ10+ (out), N20 DQ10- (out), P17 DQ7+ (out), P18 DQ7- (out), P19 DQ8+ (out), P20 DQ8- (out), R18 DQ6+ (out), R19 DQ6- (out), T18 DQ3- (out), T19 DQ5+ (out), T20 DQ5- (out), U10 DQD1- (out), U12 DQD4- (out), U14 DQD7- (out), U18 DQ3+ (out), U19 DQ4+ (out), U20 DQ4- (out), V3 PDQ (in), V10 DQD1+ (out), V11 DQD2- (out), V12 DQD4+ (out), V13 DQD5- (out), V14 DQD7+ (out), V15 DQD8- (out), V16 DQD10- (out), V17 DQ0- (out), V19 DQ2+ (out), V20 DQ2- (out), W10 DQD0- (out), W11 DQD2+ (out), W12 DQD3- (out), W13 DQD5+ (out), W14 DQD6- (out), W15 DQD8+ (out), W16 DQD9- (out), W17 DQD10+ (out), W18 DQ0+ (out), W19 DQ1+ (out), W20 DQ1- (out), Y10 DQD0+ (out), Y12 DQD3+ (out), Y14 DQD6+ (out), Y16 DQD9+ (out), Y18 DQD11+ (out), Y19 DQD11- (out)
part C pins: A3 SDO (oe), A4 TPM (in), A5 NDM (in), B1 VBG (out), B3 ~{ECE} (in), B4 SDI (in), B5 CALRUN (out), C2 VCMO (out), C4 ~{SCS} (in), C5 SCLK (in), D6 CAL (in), U2 CLK+ (in), U6 RCOUT1- (out), V1 CLK- (in), V2 DCLK_RST+ (in), V4 CALDLY (in), V5 DES (in), V6 RCOUT2+ (out), V7 RCOUT2- (out), W1 DCLK_RST- (in), W4 DDRPH (in), W5 RCLK- (in), Y3 FSR (in), Y4 RCLK+ (in), Y5 RCOUT1+ (out)
part D pins: A2 VA (power), A6 VA (power), A8 VE (power), A11 VDR (power), A15 VDR (power), B6 VA (power), B9 VE (power), C1 RTRIM+, C3 REXT+, C6 VA (power), C7 NC, C8 VE (power), C18 VDR (power), D1 DNC, D2 RTRIM-, D3 REXT-, D7 DNC, D8 VA (power), D9 VA (power), D11 VDR (power), D15 VDR (power), D17 VDR (power), E1 VA (power), E2 TDIODE+, E3 DNC, F1 VA (power), F3 TDIODE-, F4 DNC, G1 VTC (power), G3 VTC (power), G4 VTC (power), H2 VTC (power), H4 VA (power), J3 VTC (power), J17 VDR (power), J20 VDR (power), K3 VTC (power), L3 VTC (power), M3 VTC (power), N2 VTC (power), N4 VA (power), P1 VTC (power), P3 VTC (power), P4 VTC (power), R1 VA (power), R3 VTC (power), R4 VTC (power), R17 VDR (power), R20 VDR (power), T1 VA (power), T17 VDR (power), U7 DNC, U8 VA (power), U9 VA (power), U11 VDR (power), U15 VDR (power), U16 VDR (power), V8 VE (power), W3 DNC, W6 VA (power), W9 VE (power), Y2 VA (power), Y6 VA (power), Y8 VE (power), Y11 VDR (power), Y15 VDR (power)
part E pins: A1 GND (power), A7 GND (power), A9 GNDE (power), A13 GNDDR (power), A17 GNDDR (power), A20 GNDDR (power), B2 GND (power), B7 GND (power), B8 GNDE (power), C9 GNDE (power), D4 GND (power), D5 GND (power), D13 GNDDR (power), D16 GNDDR (power), E4 GND (power), E17 GNDDR (power), F2 GNDTC (power), F17 GNDDR (power), F20 GNDDR (power), G2 GNDTC (power), H3 GNDTC (power), H8 GND (power), H9 GND (power), H10 GND (power), H11 GND (power), H12 GND (power), H13 GND (power), J2 GNDTC (power), J8 GND (power), J9 GND (power), J10 GND (power), J11 GND (power), J12 GND (power), J13 GND (power), K1 GND (power), K4 GNDTC (power), K8 GND (power), K9 GND (power), K10 GND (power), K11 GND (power), K12 GND (power), K13 GND (power), L1 GND (power), L4 GNDTC (power), L8 GND (power), L9 GND (power), L10 GND (power), L11 GND (power), L12 GND (power), L13 GND (power), M2 GNDTC (power), M8 GND (power), M9 GND (power), M10 GND (power), M11 GND (power), M12 GND (power), M13 GND (power), M17 GNDDR (power), M20 GNDDR (power), N3 GNDTC (power), N8 GND (power), N9 GND (power), N10 GND (power), N11 GND (power), N12 GND (power), N13 GND (power), P2 GNDTC (power), R2 GNDTC (power), T2 GNDTC (power), T3 GNDTC (power), T4 GND (power), U1 GNDTC (power), U4 GND (power), U5 GND (power), U13 GNDDR (power), U17 GNDDR (power), V9 GNDE (power), V18 GNDDR (power), W2 GND (power), W7 GND (power), W8 GNDE (power), Y1 GND (power), Y7 GND (power), Y9 GNDE (power), Y13 GNDDR (power), Y17 GNDDR (power), Y20 GNDDR (power)

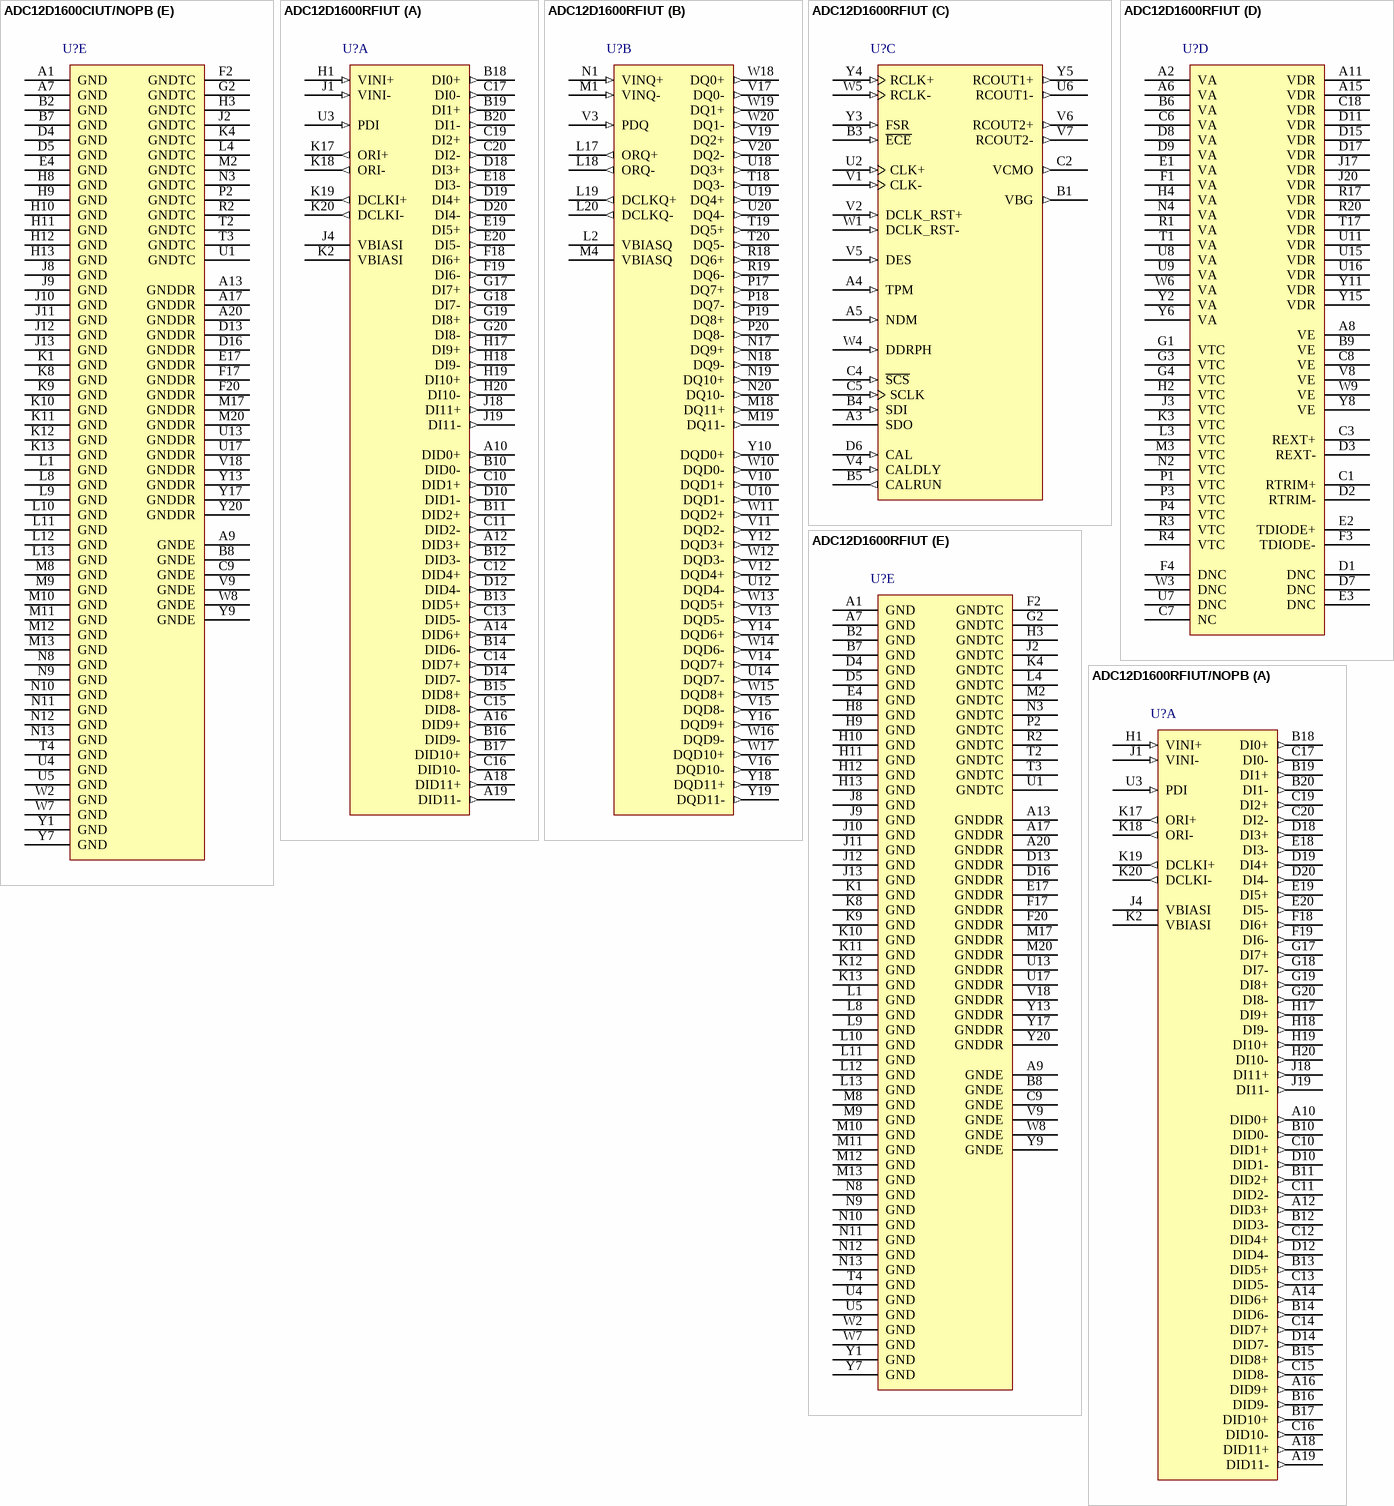
[diagram p20: symbols ADC12D1600CIUT/NOPB to ADC12D1600RFIUT/NOPB]

## ADC12D1600CIUT/NOPB
designator U?
12-Bit, 2.0/3.2 GSPS Ultra High-Speed ADC, 292 pin TEPBGA; PartNumber: ADC12D1600CIUT/NOPB; Manufacturer: National Semiconductor; PackageTopMarking: NSUZXYYTTE#*ADC12D1600CIUT; PowerWise: Y; CompType: ADC IC; DatasheetVersion: Mar-2013; PackageVersion: revA, Jul-2001; PackageReference: UFH292A; PackageDescription: TE-PBGA, 27 x 27 x 2.38mm, 292 Ball, 1.27mm Pitch; RoHS: Y; PinCount: 292; High-Reliability: Y; Code_JEDEC: MS-034-BAL-2; ComponentLink1Description: ADC12D1600 Datasheet; ComponentLink1URL: http://www.ti.com/lit/ds/symlink/adc12d1600.pdf; ComponentLink2Description: ADC12D1600 Web Page; ComponentLink2URL: http://www.national.com/pf/AD/ADC12D1600.html; ComponentLink3Description: UFH292A Package Page; ComponentLink3URL: http://www.national.com/packaging/folders/ufh292a.html
footprint UFH292A (BGA, 292-Leads, Body 27x27mm, Pitch 1.27mm)
part A pins: A10 DID0+ (out), A12 DID3+ (out), A14 DID6+ (out), A16 DID9+ (out), A18 DID11+ (out), A19 DID11- (out), B10 DID0- (out), B11 DID2+ (out), B12 DID3- (out), B13 DID5+ (out), B14 DID6- (out), B15 DID8+ (out), B16 DID9- (out), B17 DID10+ (out), B18 DI0+ (out), B19 DI1+ (out), B20 DI1- (out), C10 DID1+ (out), C11 DID2- (out), C12 DID4+ (out), C13 DID5- (out), C14 DID7+ (out), C15 DID8- (out), C16 DID10- (out), C17 DI0- (out), C19 DI2+ (out), C20 DI2- (out), D10 DID1- (out), D12 DID4- (out), D14 DID7- (out), D18 DI3+ (out), D19 DI4+ (out), D20 DI4- (out), E18 DI3- (out), E19 DI5+ (out), E20 DI5- (out), F18 DI6+ (out), F19 DI6- (out), G17 DI7+ (out), G18 DI7- (out), G19 DI8+ (out), G20 DI8- (out), H1 VINI+ (in), H17 DI9+ (out), H18 DI9- (out), H19 DI10+ (out), H20 DI10- (out), J1 VINI- (in), J4 VBIASI, J18 DI11+ (out), J19 DI11- (out), K2 VBIASI, K17 ORI+ (out), K18 ORI- (out), K19 DCLKI+ (out), K20 DCLKI- (out), U3 PDI (in)
part B pins: L2 VBIASQ, L17 ORQ+ (out), L18 ORQ- (out), L19 DCLKQ+ (out), L20 DCLKQ- (out), M1 VINQ- (in), M4 VBIASQ, M18 DQ11+ (out), M19 DQ11- (out), N1 VINQ+ (in), N17 DQ9+ (out), N18 DQ9- (out), N19 DQ10+ (out), N20 DQ10- (out), P17 DQ7+ (out), P18 DQ7- (out), P19 DQ8+ (out), P20 DQ8- (out), R18 DQ6+ (out), R19 DQ6- (out), T18 DQ3- (out), T19 DQ5+ (out), T20 DQ5- (out), U10 DQD1- (out), U12 DQD4- (out), U14 DQD7- (out), U18 DQ3+ (out), U19 DQ4+ (out), U20 DQ4- (out), V3 PDQ (in), V10 DQD1+ (out), V11 DQD2- (out), V12 DQD4+ (out), V13 DQD5- (out), V14 DQD7+ (out), V15 DQD8- (out), V16 DQD10- (out), V17 DQ0- (out), V19 DQ2+ (out), V20 DQ2- (out), W10 DQD0- (out), W11 DQD2+ (out), W12 DQD3- (out), W13 DQD5+ (out), W14 DQD6- (out), W15 DQD8+ (out), W16 DQD9- (out), W17 DQD10+ (out), W18 DQ0+ (out), W19 DQ1+ (out), W20 DQ1- (out), Y10 DQD0+ (out), Y12 DQD3+ (out), Y14 DQD6+ (out), Y16 DQD9+ (out), Y18 DQD11+ (out), Y19 DQD11- (out)
part C pins: A3 SDO (oe), A4 TPM (in), A5 NDM (in), B1 VBG (out), B3 ~{ECE} (in), B4 SDI (in), B5 CALRUN (out), C2 VCMO (out), C4 ~{SCS} (in), C5 SCLK (in), D6 CAL (in), U2 CLK+ (in), U6 RCOUT1- (out), V1 CLK- (in), V2 DCLK_RST+ (in), V4 CALDLY (in), V5 DES (in), V6 RCOUT2+ (out), V7 RCOUT2- (out), W1 DCLK_RST- (in), W4 DDRPH (in), W5 RCLK- (in), Y3 FSR (in), Y4 RCLK+ (in), Y5 RCOUT1+ (out)
part D pins: A2 VA (power), A6 VA (power), A8 VE (power), A11 VDR (power), A15 VDR (power), B6 VA (power), B9 VE (power), C1 RTRIM+, C3 REXT+, C6 VA (power), C7 NC, C8 VE (power), C18 VDR (power), D1 DNC, D2 RTRIM-, D3 REXT-, D7 DNC, D8 VA (power), D9 VA (power), D11 VDR (power), D15 VDR (power), D17 VDR (power), E1 VA (power), E2 TDIODE+, E3 DNC, F1 VA (power), F3 TDIODE-, F4 DNC, G1 VTC (power), G3 VTC (power), G4 VTC (power), H2 VTC (power), H4 VA (power), J3 VTC (power), J17 VDR (power), J20 VDR (power), K3 VTC (power), L3 VTC (power), M3 VTC (power), N2 VTC (power), N4 VA (power), P1 VTC (power), P3 VTC (power), P4 VTC (power), R1 VA (power), R3 VTC (power), R4 VTC (power), R17 VDR (power), R20 VDR (power), T1 VA (power), T17 VDR (power), U7 DNC, U8 VA (power), U9 VA (power), U11 VDR (power), U15 VDR (power), U16 VDR (power), V8 VE (power), W3 DNC, W6 VA (power), W9 VE (power), Y2 VA (power), Y6 VA (power), Y8 VE (power), Y11 VDR (power), Y15 VDR (power)
part E pins: A1 GND (power), A7 GND (power), A9 GNDE (power), A13 GNDDR (power), A17 GNDDR (power), A20 GNDDR (power), B2 GND (power), B7 GND (power), B8 GNDE (power), C9 GNDE (power), D4 GND (power), D5 GND (power), D13 GNDDR (power), D16 GNDDR (power), E4 GND (power), E17 GNDDR (power), F2 GNDTC (power), F17 GNDDR (power), F20 GNDDR (power), G2 GNDTC (power), H3 GNDTC (power), H8 GND (power), H9 GND (power), H10 GND (power), H11 GND (power), H12 GND (power), H13 GND (power), J2 GNDTC (power), J8 GND (power), J9 GND (power), J10 GND (power), J11 GND (power), J12 GND (power), J13 GND (power), K1 GND (power), K4 GNDTC (power), K8 GND (power), K9 GND (power), K10 GND (power), K11 GND (power), K12 GND (power), K13 GND (power), L1 GND (power), L4 GNDTC (power), L8 GND (power), L9 GND (power), L10 GND (power), L11 GND (power), L12 GND (power), L13 GND (power), M2 GNDTC (power), M8 GND (power), M9 GND (power), M10 GND (power), M11 GND (power), M12 GND (power), M13 GND (power), M17 GNDDR (power), M20 GNDDR (power), N3 GNDTC (power), N8 GND (power), N9 GND (power), N10 GND (power), N11 GND (power), N12 GND (power), N13 GND (power), P2 GNDTC (power), R2 GNDTC (power), T2 GNDTC (power), T3 GNDTC (power), T4 GND (power), U1 GNDTC (power), U4 GND (power), U5 GND (power), U13 GNDDR (power), U17 GNDDR (power), V9 GNDE (power), V18 GNDDR (power), W2 GND (power), W7 GND (power), W8 GNDE (power), Y1 GND (power), Y7 GND (power), Y9 GNDE (power), Y13 GNDDR (power), Y17 GNDDR (power), Y20 GNDDR (power)